# Altium schematic symbol library ic.SchLib: 105 symbols (part 1 of 2)
Pins are listed as number, name and electrical type; pins without a type are passive.

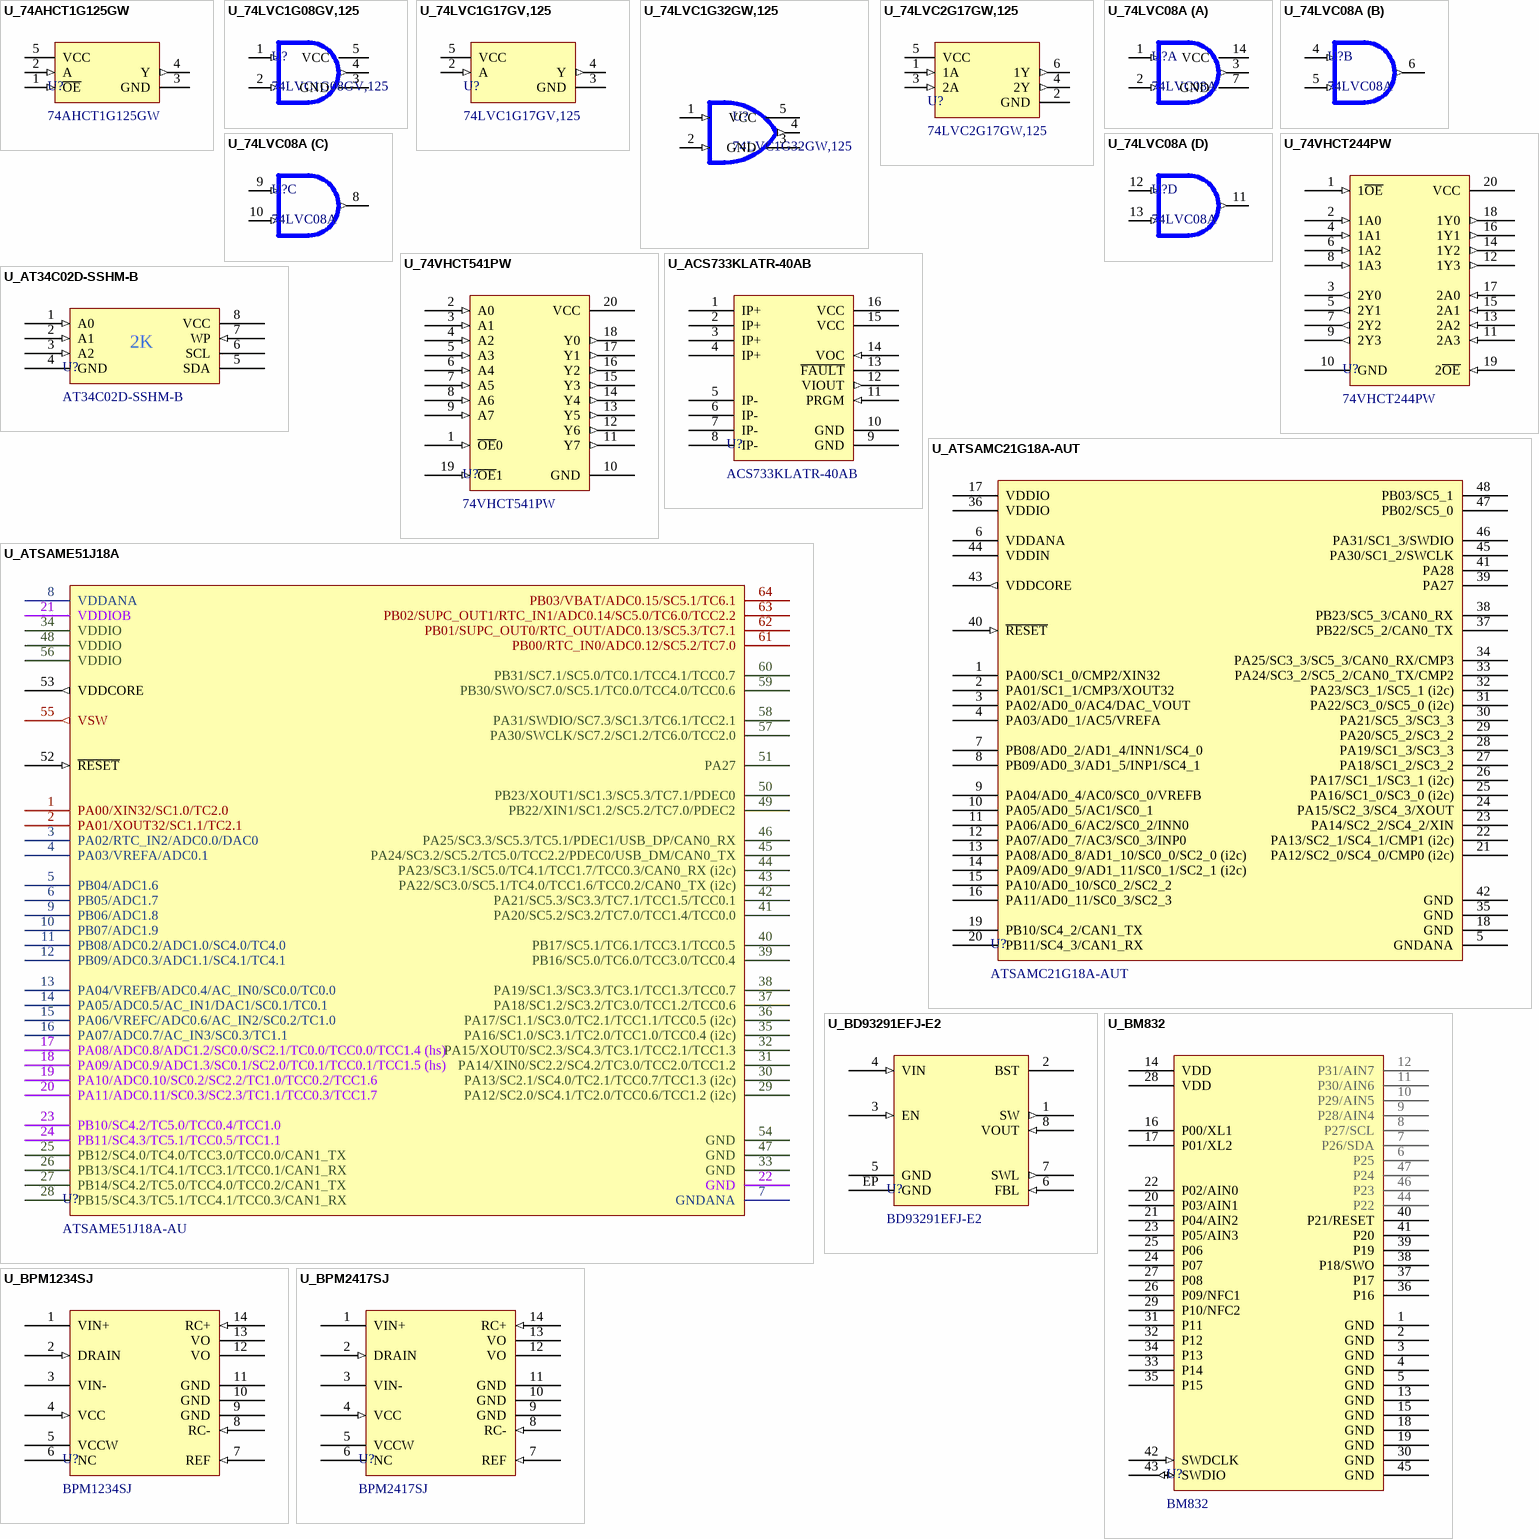
[diagram p0: symbols U_74AHCT1G125GW to U_BPM2417SJ]

## U_74AHCT1G125GW
designator U?, comment 74AHCT1G125GW
Buffer, Non-Inverting 1 Element 1 Bit per Element 3-State Output 5-TSSOP; Manufacturer: NXP Semiconductors; High Level Output Current: -8mA; Low Level Output Current: 8mA; Max Supply Voltage: 5.5V; Min Supply Voltage: 4.5V; Quiescent Current: 1uA; Propagation Delay: 11ns; Turn-On Delay Time: 9.5ns; Supplier 1: Digi-Key; Supplier 2: Mouser; Supplier Part Number 1: 1727-4055-1-ND; Supplier Part Number 2: 771-74AHCT1G125GW-G; Logic Function: Buffer; Manufacturer Part Number: 74AHCT1G125GW; Max Operating Temperature: 125°C; Min Operating Temperature: -40°C; Polarity: Non-Inverting
footprint SC70-5 (5 pin SC70, 0.65mm pitch)
pins: 1 ~{OE} (in), 2 A (in), 3 GND (power), 4 Y (out), 5 VCC (power)

## U_74LVC1G08GV,125
designator U?, comment 74LVC1G08GV,125
AND Gate IC 1 Channel 5-TSOP; Manufacturer: Nexperia USA Inc.; Low Level Output Current: 32mA; Quiescent Current: 4uA; Max Supply Voltage: 5.5V; Min Supply Voltage: 1.65V; Propagation Delay: 4ns; Max Operating Temperature: 125°C; High Level Output Current: 32mA; Logic Function: AND; Manufacturer Part Number: 74LVC1G08GV,125; Min Operating Temperature: -40°C; Supplier 1: Digi-Key; Supplier Part Number 1: 1727-4115-1-ND
footprint SOT23-5 (SOT23-5 (SOT-25) 0.95mm pitch, 5 pins)
pins: 1 B (in), 2 A (in), 3 GND (power), 4 Y (out), 5 VCC (power)

## U_74LVC1G17GV,125
designator U?, comment 74LVC1G17GV,125
Buffer, Non-Inverting 1 Element 1 Bit per Element Push-Pull Output 5-TSOP; Manufacturer: NXP Semiconductors; Low Level Output Current: 32mA; Propagation Delay: 2.2ns; Max Supply Voltage: 5.5V; Min Supply Voltage: 1.65V; Quiescent Current: 200uA; High Level Output Current: -32mA; Supplier 1: Digi-Key; Supplier Part Number 1: 1727-6070-1-ND; Max Operating Temperature: 125°C; Manufacturer Part Number: 74LVC1G17GV,125; Min Operating Temperature: -40°C
footprint SOT23-5 (SOT23-5 (SOT-25) 0.95mm pitch, 5 pins)
pins: 2 A (in), 3 GND (power), 4 Y (out), 5 VCC (power)

## U_74LVC1G32GW,125
designator U?, comment 74LVC1G32GW,125
OR Gate IC 1 Channel 5-TSSOP; Manufacturer: Nexperia; Supplier 1: Digi-Key; Supplier 2: Mouser; Supplier Part Number 1: 1727-3102-1-ND; Supplier Part Number 2: 771-74LVC1G32GW-G; Manufacturer Part Number: 74LVC1G32GW,125; Logic Function: OR
footprint SC70-5 (5 pin SC70, 0.65mm pitch)
pins: 1 B (in), 2 A (in), 3 GND (power), 4 Y (out), 5 VCC (power)

## U_74LVC2G17GW,125
designator U?, comment 74LVC2G17GW,125
Buffer, Non-Inverting 2 Element 1 Bit per Element Push-Pull Output 6-TSSOP; Manufacturer: Nexperia; Supplier 1: Digi-Key; Supplier 2: Mouser; Supplier Part Number 1: 1727-4218-1-ND; Supplier Part Number 2: 771-LVC2G17GW125; Manufacturer Part Number: 74LVC2G17GW,125
footprint SOT363 (6 pin SOT363, 0.65mm pitch)
pins: 1 1A (in), 2 GND (power), 3 2A (in), 4 2Y (out), 5 VCC (power), 6 1Y (out)

## U_74LVC08A
designator U?, comment 74LVC08A
AND Gate IC 4 Channel 14-SO; Manufacturer Part Number: 74LVC08AS14-13; Manufacturer: Diodes; Low Level Output Current: 24mA; Quiescent Current: 40uA; Max Supply Voltage: 5.5V; Min Supply Voltage: 1.65V; Propagation Delay: 3.9ns; Supplier 1: Digi-Key; Supplier Part Number 1: 74LVC08AS14-13DICT-ND; Max Operating Temperature: 125°C; High Level Output Current: 24mA; Logic Function: AND; Min Operating Temperature: -40°C
footprint SOIC-14 (Footprint not found)
part A pins: 1 1A (in), 2 1B (in), 3 1Y (out), 7 GND (power), 14 VCC (power)
part B pins: 4 2A (in), 5 2B (in), 6 2Y (out)
part C pins: 8 3Y (out), 9 3A (in), 10 3B (in)
part D pins: 11 4Y (out), 12 4A (in), 13 4B (in)

## U_74VHCT244PW
designator U?, comment 74VHCT244PW
Buffer, Non-Inverting 2 Element 4 Bit per Element 3-State Output 20-TSSOP; Manufacturer Part Number: 74VHCT244PW,118; Manufacturer: NXP Semiconductors; High Level Output Current: -8mA; Low Level Output Current: 8mA; Max Supply Voltage: 5.5V; Min Supply Voltage: 4.5V; Propagation Delay: 8.4ns; Max Operating Temperature: 125°C; Min Operating Temperature: -40°C; Polarity: Non-Inverting
footprint TSSOP-20 (0.65mm pitch TSSOP)
pins: 1 1~{OE} (in), 2 1A0 (in), 3 2Y0 (out), 4 1A1 (in), 5 2Y1 (out), 6 1A2 (in), 7 2Y2 (out), 8 1A3 (in), 9 2Y3 (out), 10 GND (power), 11 2A3 (in), 12 1Y3 (out), 13 2A2 (in), 14 1Y2 (out), 15 2A1 (in), 16 1Y1 (out), 17 2A0 (in), 18 1Y0 (out), 19 2~{OE} (in), 20 VCC (power)

## U_74VHCT541PW
designator U?, comment 74VHCT541PW
Buffer, Non-Inverting 1 Element 8 Bit per Element 3-State Output 20-TSSOP; Manufacturer Part Number: 74VHCT541PW,118; Manufacturer: NXP Semiconductors; High Level Output Current: -8mA; Low Level Output Current: 8mA; Max Supply Voltage: 5.5V; Min Supply Voltage: 4.5V; Propagation Delay: 8.4ns; Max Operating Temperature: 125°C; Min Operating Temperature: -40°C; Polarity: Non-Inverting
footprint TSSOP-20 (0.65mm pitch TSSOP)
pins: 1 ~{OE}0 (in), 2 A0 (in), 3 A1 (in), 4 A2 (in), 5 A3 (in), 6 A4 (in), 7 A5 (in), 8 A6 (in), 9 A7 (in), 10 GND (power), 11 Y7 (out), 12 Y6 (out), 13 Y5 (out), 14 Y4 (out), 15 Y3 (out), 16 Y2 (out), 17 Y1 (out), 18 Y0 (out), 19 ~{OE}1 (in), 20 VCC (power)

## U_ACS733KLATR-40AB
designator U?, comment ACS733KLATR-40AB
Current Sensor 40A 1 Channel Hall Effect, Differential Bidirectional 16-SOIC (0.295", 7.50mm Width); Manufacturer Part Number: ACS733KLATR-40AB-T; Manufacturer: Allegro MicroSystems; Sensitivity: 33mV/A; Frequency: 1MHz; Linearity: ±0.5%; Accuracy: ±1.7%; Voltage - Supply: 3.14 V ~ 3.46 V; Response Time: 200ns; Current - Supply (Max): 35mA; Supplier 1: Digi-Key; Supplier Part Number 1: 620-1988-6-ND; Current - Sensing: ±40A; Polarization: Bidirectional
footprint SOIC-16_W300 (Wide SOIC)
pins: 1 IP+, 2 IP+, 3 IP+, 4 IP+, 5 IP-, 6 IP-, 7 IP-, 8 IP-, 9 GND (power), 10 GND (power), 11 PRGM (in), 12 VIOUT (out), 13 ~{FAULT} (oc), 14 VOC (in), 15 VCC (power), 16 VCC (power)

## U_AT34C02D-SSHM-B
designator U?, comment AT34C02D-SSHM-B
EEPROM Memory IC 2Kb (256 x 8) I²C 1MHz 8-SOIC; Manufacturer: Microchip; Manufacturer Part Number: AT34C02D-SSHM-B; Supplier 1: Digi-Key; Supplier Part Number 1: 1611-AT34C02D-SSHM-B-ND
footprint SOIC-8 (SOIC, 8-Leads, Body 4.9x3.9mm (max), Pitch 1.27mm, IPC Medium Density)
pins: 1 A0 (in), 2 A1 (in), 3 A2 (in), 4 GND (power), 5 SDA (oc), 6 SCL (oc), 7 WP (in), 8 VCC (power)
text: 2K

## U_ATSAMC21G18A-AUT
designator U?, comment ATSAMC21G18A-AUT
ARM® Cortex®-M0+ SAM C21 Microcontroller IC 32-Bit 48MHz 256KB (256K x 8) FLASH 48-TQFP (7x7); Supplier 1: Digi-Key; Supplier Part Number 1: ATSAMC21G18A-AUTCT-ND
footprint TQFP-48
pins: 1 PA00/SC1_0/CMP2/XIN32, 2 PA01/SC1_1/CMP3/XOUT32, 3 PA02/AD0_0/AC4/DAC_VOUT, 4 PA03/AD0_1/AC5/VREFA, 5 GNDANA (power), 6 VDDANA (power), 7 PB08/AD0_2/AD1_4/INN1/SC4_0, 8 PB09/AD0_3/AD1_5/INP1/SC4_1, 9 PA04/AD0_4/AC0/SC0_0/VREFB, 10 PA05/AD0_5/AC1/SC0_1, 11 PA06/AD0_6/AC2/SC0_2/INN0, 12 PA07/AD0_7/AC3/SC0_3/INP0, 13 PA08/AD0_8/AD1_10/SC0_0/SC2_0 (i2c), 14 PA09/AD0_9/AD1_11/SC0_1/SC2_1 (i2c), 15 PA10/AD0_10/SC0_2/SC2_2, 16 PA11/AD0_11/SC0_3/SC2_3, 17 VDDIO (power), 18 GND (power), 19 PB10/SC4_2/CAN1_TX, 20 PB11/SC4_3/CAN1_RX, 21 PA12/SC2_0/SC4_0/CMP0 (i2c), 22 PA13/SC2_1/SC4_1/CMP1 (i2c), 23 PA14/SC2_2/SC4_2/XIN, 24 PA15/SC2_3/SC4_3/XOUT, 25 PA16/SC1_0/SC3_0 (i2c), 26 PA17/SC1_1/SC3_1 (i2c), 27 PA18/SC1_2/SC3_2, 28 PA19/SC1_3/SC3_3, 29 PA20/SC5_2/SC3_2, 30 PA21/SC5_3/SC3_3, 31 PA22/SC3_0/SC5_0 (i2c), 32 PA23/SC3_1/SC5_1 (i2c), 33 PA24/SC3_2/SC5_2/CAN0_TX/CMP2, 34 PA25/SC3_3/SC5_3/CAN0_RX/CMP3, 35 GND (power), 36 VDDIO (power), 37 PB22/SC5_2/CAN0_TX, 38 PB23/SC5_3/CAN0_RX, 39 PA27, 40 ~{RESET} (in), 41 PA28, 42 GND (power), 43 VDDCORE (out), 44 VDDIN (power), 45 PA30/SC1_2/SWCLK, 46 PA31/SC1_3/SWDIO, 47 PB02/SC5_0, 48 PB03/SC5_1

## U_ATSAME51J18A
designator U?, comment ATSAME51J18A-AU
ARM® Cortex®-M4F SAM E51 Microcontroller IC 32-Bit 120MHz 256KB (256K x 8) FLASH 64-TQFP (10x10); Supplier 1: Digi-Key; Supplier Part Number 1: ATSAME51J18A-AU-ND
footprint TQFP-64 (64 pin TQFP, 0.5mm pitch, 10x10mm)
pins: 1 PA00/XIN32/SC1.0/TC2.0, 2 PA01/XOUT32/SC1.1/TC2.1, 3 PA02/RTC_IN2/ADC0.0/DAC0, 4 PA03/VREFA/ADC0.1, 5 PB04/ADC1.6, 6 PB05/ADC1.7, 7 GNDANA (power), 8 VDDANA (power), 9 PB06/ADC1.8, 10 PB07/ADC1.9, 11 PB08/ADC0.2/ADC1.0/SC4.0/TC4.0, 12 PB09/ADC0.3/ADC1.1/SC4.1/TC4.1, 13 PA04/VREFB/ADC0.4/AC_IN0/SC0.0/TC0.0, 14 PA05/ADC0.5/AC_IN1/DAC1/SC0.1/TC0.1, 15 PA06/VREFC/ADC0.6/AC_IN2/SC0.2/TC1.0, 16 PA07/ADC0.7/AC_IN3/SC0.3/TC1.1, 17 PA08/ADC0.8/ADC1.2/SC0.0/SC2.1/TC0.0/TCC0.0/TCC1.4 (hs), 18 PA09/ADC0.9/ADC1.3/SC0.1/SC2.0/TC0.1/TCC0.1/TCC1.5 (hs), 19 PA10/ADC0.10/SC0.2/SC2.2/TC1.0/TCC0.2/TCC1.6, 20 PA11/ADC0.11/SC0.3/SC2.3/TC1.1/TCC0.3/TCC1.7, 21 VDDIOB (power), 22 GND (power), 23 PB10/SC4.2/TC5.0/TCC0.4/TCC1.0, 24 PB11/SC4.3/TC5.1/TCC0.5/TCC1.1, 25 PB12/SC4.0/TC4.0/TCC3.0/TCC0.0/CAN1_TX, 26 PB13/SC4.1/TC4.1/TCC3.1/TCC0.1/CAN1_RX, 27 PB14/SC4.2/TC5.0/TCC4.0/TCC0.2/CAN1_TX, 28 PB15/SC4.3/TC5.1/TCC4.1/TCC0.3/CAN1_RX, 29 PA12/SC2.0/SC4.1/TC2.0/TCC0.6/TCC1.2 (i2c), 30 PA13/SC2.1/SC4.0/TC2.1/TCC0.7/TCC1.3 (i2c), 31 PA14/XIN0/SC2.2/SC4.2/TC3.0/TCC2.0/TCC1.2, 32 PA15/XOUT0/SC2.3/SC4.3/TC3.1/TCC2.1/TCC1.3, 33 GND (power), 34 VDDIO (power), 35 PA16/SC1.0/SC3.1/TC2.0/TCC1.0/TCC0.4 (i2c), 36 PA17/SC1.1/SC3.0/TC2.1/TCC1.1/TCC0.5 (i2c), 37 PA18/SC1.2/SC3.2/TC3.0/TCC1.2/TCC0.6, 38 PA19/SC1.3/SC3.3/TC3.1/TCC1.3/TCC0.7, 39 PB16/SC5.0/TC6.0/TCC3.0/TCC0.4, 40 PB17/SC5.1/TC6.1/TCC3.1/TCC0.5, 41 PA20/SC5.2/SC3.2/TC7.0/TCC1.4/TCC0.0, 42 PA21/SC5.3/SC3.3/TC7.1/TCC1.5/TCC0.1, 43 PA22/SC3.0/SC5.1/TC4.0/TCC1.6/TCC0.2/CAN0_TX (i2c), 44 PA23/SC3.1/SC5.0/TC4.1/TCC1.7/TCC0.3/CAN0_RX (i2c), 45 PA24/SC3.2/SC5.2/TC5.0/TCC2.2/PDEC0/USB_DM/CAN0_TX, 46 PA25/SC3.3/SC5.3/TC5.1/PDEC1/USB_DP/CAN0_RX, 47 GND (power), 48 VDDIO (power), 49 PB22/XIN1/SC1.2/SC5.2/TC7.0/PDEC2, 50 PB23/XOUT1/SC1.3/SC5.3/TC7.1/PDEC0, 51 PA27, 52 ~{RESET} (in), 53 VDDCORE (out), 54 GND (power), 55 VSW (out), 56 VDDIO (power), 57 PA30/SWCLK/SC7.2/SC1.2/TC6.0/TCC2.0, 58 PA31/SWDIO/SC7.3/SC1.3/TC6.1/TCC2.1, 59 PB30/SWO/SC7.0/SC5.1/TC0.0/TCC4.0/TCC0.6, 60 PB31/SC7.1/SC5.0/TC0.1/TCC4.1/TCC0.7, 61 PB00/RTC_IN0/ADC0.12/SC5.2/TC7.0, 62 PB01/SUPC_OUT0/RTC_OUT/ADC0.13/SC5.3/TC7.1, 63 PB02/SUPC_OUT1/RTC_IN1/ADC0.14/SC5.0/TC6.0/TCC2.2, 64 PB03/VBAT/ADC0.15/SC5.1/TC6.1

## U_BD93291EFJ-E2
designator U?, comment BD93291EFJ-E2
Buck Switching Regulator IC Positive Adjustable (Fixed) 0.8V (5V) 2 Output 1.7A, 500mA 8-SOIC (0.154", 3.90mm Width) Exposed Pad; Manufacturer: Rohm Semiconductor; Quiescent Current: 5uA; Voltage - Input (Min): 8V; Voltage - Input (Max): 26V; Voltage - Output (Max): 4V; Frequency - Switching: 300kHz ~ 600kHz, 1.5MHz ~ 2.5MHz; Max Operating Temperature: 85°C; Manufacturer Part Number: BD93291EFJ-E2; Min Operating Temperature: -40°C; Voltage - Output (Min/Fixed): 0.8V (5V); Current - Output: 1.7A, 500mA; Supplier 1: Digi-Key; Supplier Part Number 1: BD93291EFJ-E2CT-ND
footprint SOIC-8-EP (SOIC, 8-Leads, Body 4.9x3.9mm (max), Pitch 1.27mm, IPC Medium Density, Exposed Pad)
pins: 1 SW (out), 2 BST, 3 EN (in), 4 VIN (in), 5 GND (power), 6 FBL (in), 7 SWL (out), 8 VOUT (in) "Is an input, even though it is called "VOUT"", EP GND (power)

## U_BM832
designator U?, comment BM832
Bluetooth Bluetooth v5.0 Transceiver Module 2.4GHz PCB Trace Surface Mount; Manufacturer: Fanstel; Manufacturer Part Number: BM832
footprint U_BM832 (BM832 or BM832A Bluetooth Module)
pins: 1 GND (power), 2 GND (power), 3 GND (power), 4 GND (power), 5 GND (power), 6 P25, 7 P26/SDA, 8 P27/SCL, 9 P28/AIN4, 10 P29/AIN5, 11 P30/AIN6, 12 P31/AIN7, 13 GND (power), 14 VDD (power), 15 GND (power), 16 P00/XL1, 17 P01/XL2, 18 GND (power), 19 GND (power), 20 P03/AIN1, 21 P04/AIN2, 22 P02/AIN0, 23 P05/AIN3, 24 P07, 25 P06, 26 P09/NFC1, 27 P08, 28 VDD (power), 29 P10/NFC2, 30 GND (power), 31 P11, 32 P12, 33 P14, 34 P13, 35 P15, 36 P16, 37 P17, 38 P18/SWO, 39 P19, 40 P21/RESET, 41 P20, 42 SWDCLK (in), 43 SWDIO (io), 44 P22, 45 GND (power), 46 P23, 47 P24

## U_BPM1234SJ
designator U?, comment BPM1234SJ
Isolated Module DC DC Converter 1 Output 12V 3.4A 140V - 420V Input; Supplier 1: Digi-Key; Supplier Part Number 1: MT7391-ND
footprint DIP-14_DCDC_MODULE_BPM (Tamura DCDC Module BPM Series)
pins: 1 VIN+ (power) "DC voltage input terminal (+)", 2 DRAIN (in) "Terminal for noise adjustment", 3 VIN- (power) "DC voltage input terminal (-)", 4 VCC (in) "Terminal for start-up time adjustment", 5 VCCW "Auxiliary winding terminal", 6 NC "Unused terminal", 7 REF (in) "Output voltage adjustment terminal", 8 RC- (in) "Output voltage detection terminal (-)", 9 GND (power) "Output terminal (-)", 10 GND (power) "Output terminal (-)", 11 GND (power) "Output terminal (-)", 12 VO (power) "Output terminal (+)", 13 VO (power) "Output terminal (+)", 14 RC+ (in) "Output voltage detection terminal (+)"

## U_BPM2417SJ
designator U?, comment BPM2417SJ
Isolated Module DC DC Converter 1 Output 24V 1.7A 100V - 420V Input; Supplier 1: Digi-Key; Supplier Part Number 1: MT7393-ND
footprint DIP-14_DCDC_MODULE_BPM (Tamura DCDC Module BPM Series)
pins: 1 VIN+ (power) "DC voltage input terminal (+)", 2 DRAIN (in) "Terminal for noise adjustment", 3 VIN- (power) "DC voltage input terminal (-)", 4 VCC (in) "Terminal for start-up time adjustment", 5 VCCW "Auxiliary winding terminal", 6 NC "Unused terminal", 7 REF (in) "Output voltage adjustment terminal", 8 RC- (in) "Output voltage detection terminal (-)", 9 GND (power) "Output terminal (-)", 10 GND (power) "Output terminal (-)", 11 GND (power) "Output terminal (-)", 12 VO (power) "Output terminal (+)", 13 VO (power) "Output terminal (+)", 14 RC+ (in) "Output voltage detection terminal (+)"

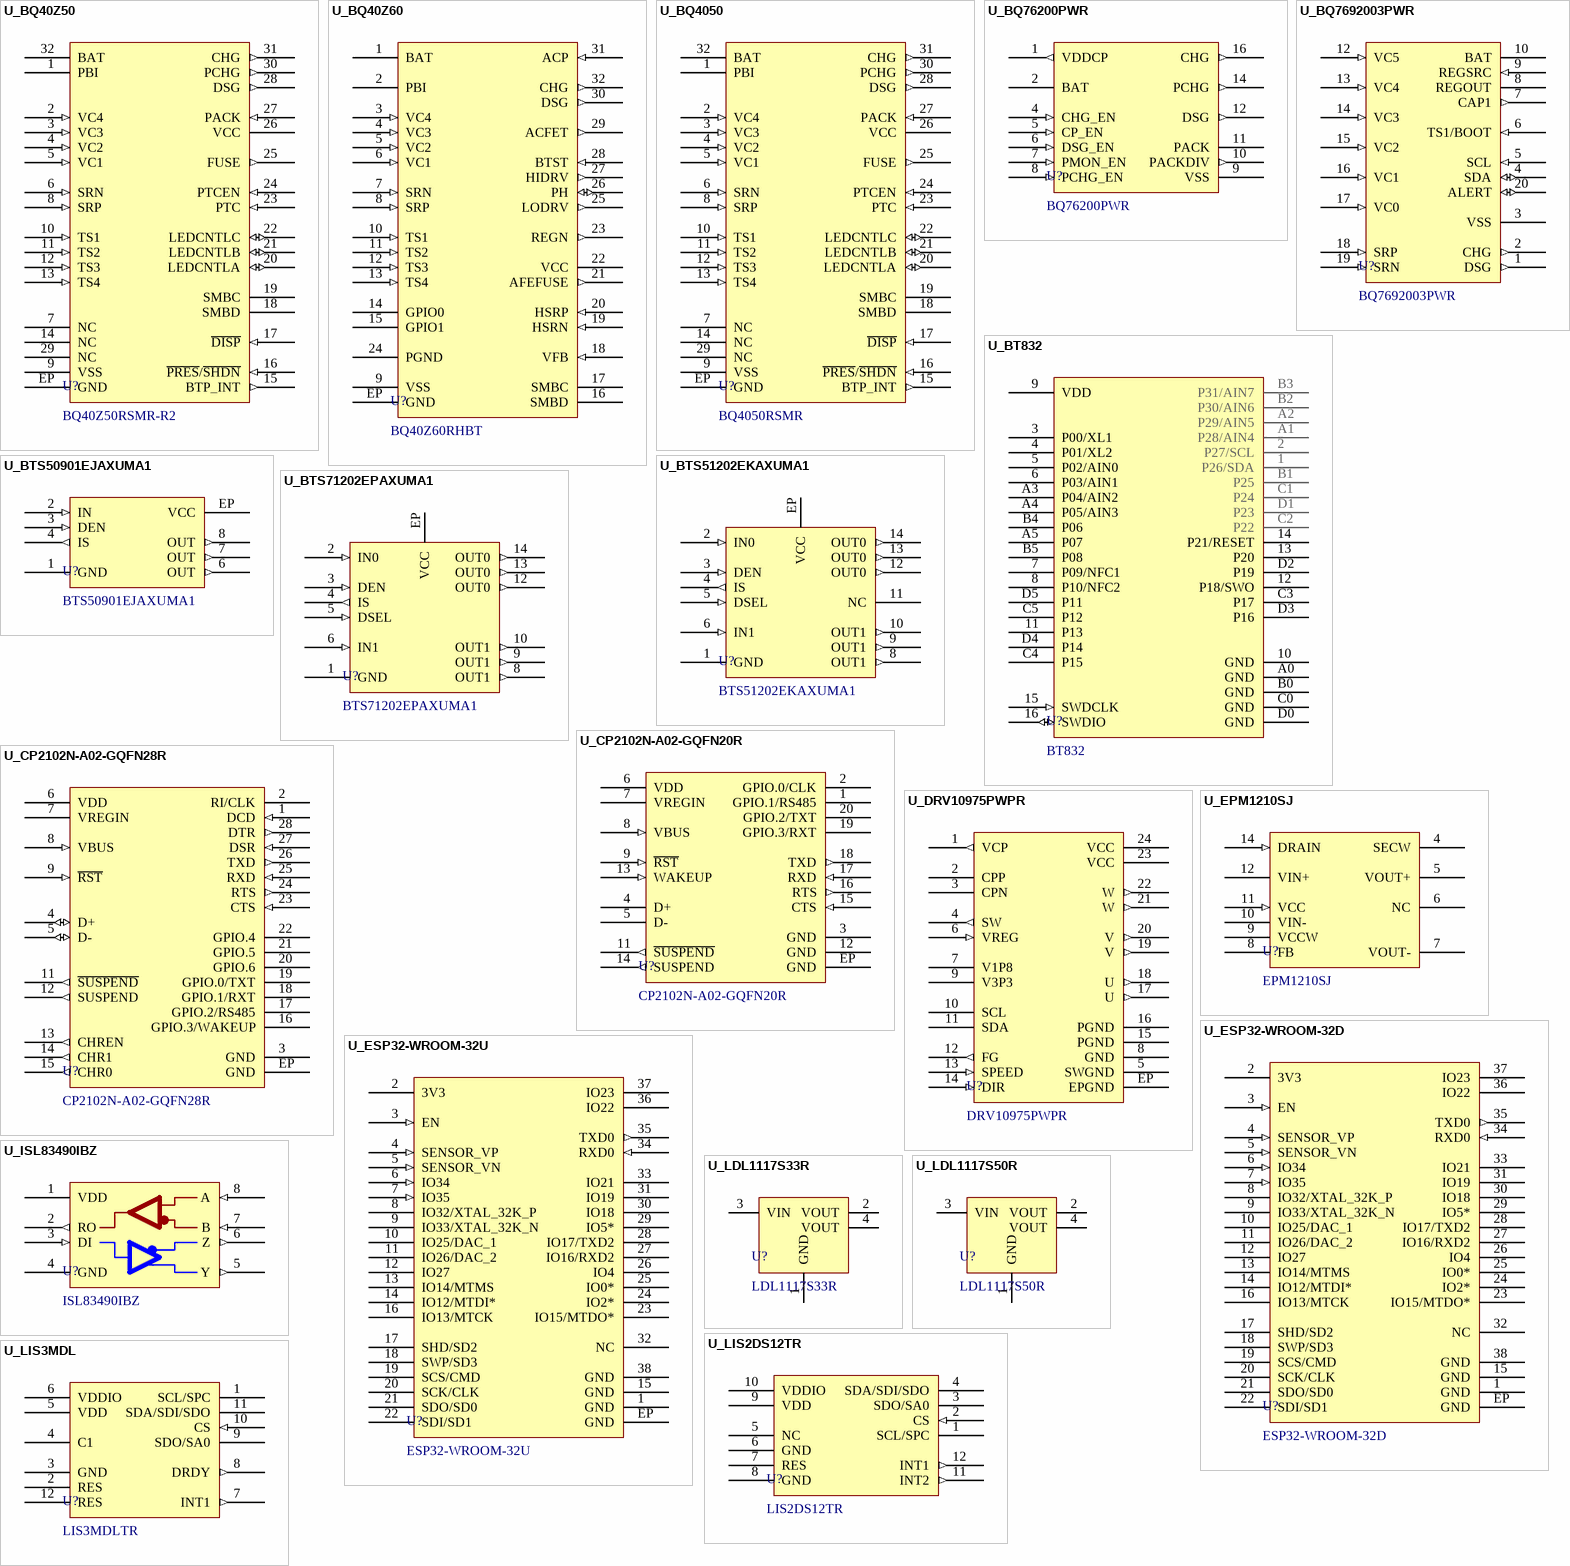
[diagram p1: symbols U_BQ40Z50 to U_LIS3MDL]

## U_BQ40Z50
designator U?, comment BQ40Z50RSMR-R2
Battery Multi-Function Controller IC Lithium-Ion/Polymer 32-VQFN (4x4); Supplier 1: Digi-Key; Supplier 2: Mouser; Supplier Part Number 1: 296-49567-1-ND; Supplier Part Number 2: 595-BQ40Z50RSMR-R2
footprint VQFN-32-EP_4x4mm (4x4mm VQFN, 32 pins, 0.4mm pitch)
pins: 1 PBI (power), 2 VC4 (in), 3 VC3 (in), 4 VC2 (in), 5 VC1 (in), 6 SRN (in), 7 NC, 8 SRP (in), 9 VSS, 10 TS1 (in), 11 TS2 (in), 12 TS3 (in), 13 TS4 (in), 14 NC, 15 BTP_INT (out), 16 ~{PRES}/~{SHDN} (in), 17 ~{DISP} (in), 18 SMBD, 19 SMBC, 20 LEDCNTLA (io), 21 LEDCNTLB (io), 22 LEDCNTLC (io), 23 PTC (in), 24 PTCEN (in), 25 FUSE (out), 26 VCC (power), 27 PACK (in), 28 DSG (out), 29 NC, 30 PCHG (out), 31 CHG (out), 32 BAT (power), EP GND (power)

## U_BQ40Z60
designator U?, comment BQ40Z60RHBT
Charger IC Lithium-Ion/Polymer 32-VQFN (5x5); Supplier 1: Digi-Key; Supplier 2: Mouser; Supplier Part Number 2: 595-BQ40Z60RHBT; Supplier Part Number 1: 296-38618-1-ND
footprint VQFN-32-EP (5x5mm VQFN, 32 pins, 0.5mm pitch)
pins: 1 BAT, 2 PBI (power), 3 VC4 (in), 4 VC3 (in), 5 VC2 (in), 6 VC1 (in), 7 SRN (in), 8 SRP (in), 9 VSS (power), 10 TS1 (in), 11 TS2 (in), 12 TS3 (in), 13 TS4 (in), 14 GPIO0 (oc), 15 GPIO1 (oc), 16 SMBD (oc), 17 SMBC (oc), 18 VFB (in), 19 HSRN (in), 20 HSRP (in), 21 AFEFUSE (out), 22 VCC (power), 23 REGN (out), 24 PGND (power), 25 LODRV (out), 26 PH (io), 27 HIDRV (out), 28 BTST (in), 29 ACFET (out), 30 DSG (out), 31 ACP (in), 32 CHG (out), EP GND (power)

## U_BQ4050
designator U?, comment BQ4050RSMR
Battery Multi-Function Controller IC Lithium-Ion/Polymer 32-VQFN (4x4); Supplier 1: Digi-Key; Supplier 2: Mouser; Supplier Part Number 1: 296-48498-1-ND; Supplier Part Number 2: 595-BQ4050RSMR
footprint VQFN-32-EP_4x4mm (4x4mm VQFN, 32 pins, 0.4mm pitch)
pins: 1 PBI (power), 2 VC4 (in), 3 VC3 (in), 4 VC2 (in), 5 VC1 (in), 6 SRN (in), 7 NC, 8 SRP (in), 9 VSS, 10 TS1 (in), 11 TS2 (in), 12 TS3 (in), 13 TS4 (in), 14 NC, 15 BTP_INT (out), 16 ~{PRES}/~{SHDN} (in), 17 ~{DISP} (in), 18 SMBD, 19 SMBC, 20 LEDCNTLA (io), 21 LEDCNTLB (io), 22 LEDCNTLC (io), 23 PTC (in), 24 PTCEN (in), 25 FUSE (out), 26 VCC (power), 27 PACK (in), 28 DSG (out), 29 NC, 30 PCHG (out), 31 CHG (out), 32 BAT (power), EP GND (power)

## U_BQ76200PWR
designator U?, comment BQ76200PWR
Battery Battery Protection IC Lead Acid 16-TSSOP; Supplier 1: Digi-Key; Supplier 2: Mouser; Supplier Part Number 1: 296-43273-1-ND; Supplier Part Number 2: 595-BQ76200PWR
footprint TSSOP-16 (0.65mm pitch TSSOP)
pins: 1 VDDCP (out), 2 BAT (power), 4 CHG_EN (in), 5 CP_EN (in), 6 DSG_EN (in), 7 PMON_EN (in), 8 PCHG_EN (in), 9 VSS (power), 10 PACKDIV (out), 11 PACK (power), 12 DSG (out), 14 PCHG (out), 16 CHG (out)

## U_BQ7692003PWR
designator U?, comment BQ7692003PWR
Battery Battery Monitor IC Multi-Chemistry 20-TSSOP; Supplier 1: Digi-Key; Supplier Part Number 1: 296-39959-6-ND
footprint TSSOP-20 (0.65mm pitch TSSOP)
pins: 1 DSG (out), 2 CHG (out), 3 VSS (power), 4 SDA (io), 5 SCL (in), 6 TS1/BOOT (in), 7 CAP1 (out), 8 REGOUT (power), 9 REGSRC (in), 10 BAT (power), 12 VC5 (in), 13 VC4 (in), 14 VC3 (in), 15 VC2 (in), 16 VC1 (in), 17 VC0 (in), 18 SRP (in), 19 SRN (in), 20 ALERT (io)

## U_BT832
designator U?, comment BT832
Bluetooth Bluetooth v5.0 Transceiver Module 2.4GHz Integrated, Trace Surface Mount; Manufacturer: Fanstel; Supplier 1: Digi-Key; Supplier 2: Mouser; Supplier Part Number 1: 1914-1013-1-ND; Supplier Part Number 2: 308-BT832; Manufacturer Part Number: BT832
footprint U_BT832 (BT832 or BT832A Bluetooth Module)
pins: 1 P26/SDA, 2 P27/SCL, 3 P00/XL1, 4 P01/XL2, 5 P02/AIN0, 6 P03/AIN1, 7 P09/NFC1, 8 P10/NFC2, 9 VDD (power), 10 GND (power), 11 P13, 12 P18/SWO, 13 P20, 14 P21/RESET, 15 SWDCLK (in), 16 SWDIO (io), A0 GND (power), A1 P28/AIN4, A2 P29/AIN5, A3 P04/AIN2, A4 P05/AIN3, A5 P07, B0 GND (power), B1 P25, B2 P30/AIN6, B3 P31/AIN7, B4 P06, B5 P08, C0 GND (power), C1 P24, C2 P22, C3 P17, C4 P15, C5 P12, D0 GND (power), D1 P23, D2 P19, D3 P16, D4 P14, D5 P11

## U_BTS50901EJAXUMA1
designator U?, comment BTS50901EJAXUMA1
IC PWR SW HI-SIDE 1CH 8DSO; Supplier 1: Digi-Key; Supplier Part Number 1: BTS50901EJAXUMA1DKR-ND
footprint SOIC-8-EP (SOIC, 8-Leads, Body 4.9x3.9mm (max), Pitch 1.27mm, IPC Medium Density, Exposed Pad)
pins: 1 GND (power), 2 IN (in), 3 DEN (in), 4 IS (out), 6 OUT (out), 7 OUT (out), 8 OUT (out), EP VCC (power)

## U_BTS51202EKAXUMA1
designator U?, comment BTS51202EKAXUMA1
Power Switch/Driver 1:1 N-Channel 2A PG-DSO-14-40-EP; Supplier 1: Digi-Key; Supplier Part Number 1: BTS51202EKAXUMA1CT-ND
footprint SOIC-14-EP (SOIC 14 pin with Exposed Pad (1.27mm pitch))
pins: 1 GND (power), 2 IN0 (in), 3 DEN (in), 4 IS (out), 5 DSEL (in), 6 IN1 (in), 8 OUT1 (out), 9 OUT1 (out), 10 OUT1 (out), 11 NC, 12 OUT0 (out), 13 OUT0 (out), 14 OUT0 (out), EP VCC (power)

## U_BTS71202EPAXUMA1
designator U?, comment BTS71202EPAXUMA1
Power Switch/Driver 1:1 N-Channel 2A PG-TSDSO-14-22; Supplier 1: Digikey; Supplier 2: Mouser; Supplier Part Number 1: BTS71202EPAXUMA1CT-ND; Supplier Part Number 2: 726-BTS71202EPAXUMA1
footprint TSSOP-14-EP (0.65mm pitch TSSOP, 14 pins, exposed pad)
pins: 1 GND (power), 2 IN0 (in), 3 DEN (in), 4 IS (out), 5 DSEL (in), 6 IN1 (in), 8 OUT1 (out), 9 OUT1 (out), 10 OUT1 (out), 12 OUT0 (out), 13 OUT0 (out), 14 OUT0 (out), EP VCC (power)

## U_CP2102N-A02-GQFN20R
designator U?, comment CP2102N-A02-GQFN20R
USB Bridge, USB to UART USB 2.0 UART Interface 20-QFN (3x3); Supplier 1: Digi-Key; Supplier 2: Mouser; Supplier Part Number 1: 336-5886-1-ND; Supplier Part Number 2: 634-CP2102NA02QFN20R
footprint QFN-20-EP_3x3mm (20 pin QFN package with exposed pad, 3x3mm)
pins: 1 GPIO.1/RS485, 2 GPIO.0/CLK, 3 GND (power), 4 D+, 5 D-, 6 VDD (power), 7 VREGIN (power), 8 VBUS (in), 9 ~{RST} (in), 11 ~{SUSPEND} (out), 12 GND (power), 13 WAKEUP (in), 14 SUSPEND (out), 15 CTS (in), 16 RTS (out), 17 RXD (in), 18 TXD (out), 19 GPIO.3/RXT, 20 GPIO.2/TXT, EP GND (power)

## U_CP2102N-A02-GQFN28R
designator U?, comment CP2102N-A02-GQFN28R
USB Bridge, USB to UART USB 2.0 UART Interface 28-QFN (5x5); Supplier 1: Digi-Key; Supplier 2: Mouser; Supplier Part Number 1: 336-5890-1-ND; Supplier Part Number 2: 634-CP2102NA02QFN28R
footprint QFN-28-EP_5x5mm (28 pin QFN, 0.5mm pitch)
pins: 1 DCD (in), 2 RI/CLK, 3 GND (power), 4 D+ (io), 5 D- (io), 6 VDD (power), 7 VREGIN (power), 8 VBUS (in), 9 ~{RST} (in), 11 ~{SUSPEND} (out), 12 SUSPEND (out), 13 CHREN (out), 14 CHR1 (out), 15 CHR0 (out), 16 GPIO.3/WAKEUP, 17 GPIO.2/RS485, 18 GPIO.1/RXT, 19 GPIO.0/TXT, 20 GPIO.6, 21 GPIO.5, 22 GPIO.4, 23 CTS (in), 24 RTS (out), 25 RXD (in), 26 TXD (out), 27 DSR (in), 28 DTR (out), EP GND (power)

## U_DRV10975PWPR
designator U?, comment DRV10975PWPR
Motor Driver Power MOSFET Analog, I²C, PWM 24-HTSSOP; Supplier 1: Digi-Key; Supplier 2: Mouser; Supplier Part Number 1: 296-40026-1-ND; Supplier Part Number 2: 595-DRV10975PWPR
footprint TSSOP-24-EP (24 Pin TSSOP, 0.65mm pitch)
pins: 1 VCP (out), 2 CPP (power), 3 CPN (power), 4 SW (out), 5 SWGND (power), 6 VREG (in), 7 V1P8 (power), 8 GND (power), 9 V3P3 (power), 10 SCL (oc), 11 SDA (oc), 12 FG (out), 13 SPEED (in), 14 DIR (in), 15 PGND (power), 16 PGND (power), 17 U (out), 18 U (out), 19 V (out), 20 V (out), 21 W (out), 22 W (out), 23 VCC (power), 24 VCC (power), EP EPGND (power)

## U_EPM1210SJ
designator U?, comment EPM1210SJ
Isolated Module DC DC Converter 1 Output 12V 1A 110V - 450V Input; Supplier 1: Digi-Key; Supplier Part Number 1: MT7382-ND
footprint DIP-14_DCDC_MODULE_EPM (Tamura DCDC Module EPM Series)
pins: 4 SECW "Non-contact terminal", 5 VOUT+ (power) "Output terminal (+)", 6 NC "Non-contact terminal", 7 VOUT- (power) "Output terminal (-)", 8 FB "Non-contact terminal", 9 VCCW "Non-contact terminal", 10 VIN- (power) "DC voltage input terminal (-)", 11 VCC (in) "Terminal for start-up time adjustment", 12 VIN+ (power) "DC voltage input terminal (+)", 14 DRAIN (in) "Terminal for noise adjustment"

## U_ESP32-WROOM-32D
designator U?, comment ESP32-WROOM-32D
Bluetooth, WiFi 802.11b/g/n, Bluetooth v4.2 + EDR, Class 1, 2 and 3 Transceiver Module 2.4GHz ~ 2.5GHz Integrated, Trace Surface Mount; Supplier 1: Digi-Key; Supplier 2: Mouser; Supplier Part Number 1: 1904-1023-1-ND; Supplier Part Number 2: 356-ESP32WROOM-32D
footprint U_ESP32-WROOM-32D (Wifi/Bluetooth Module, PCB Antenna)
pins: 1 GND (power), 2 3V3 (power), 3 EN (in) "Module-enable signal. Active high.", 4 SENSOR_VP (in) "GPIO36, ADC1_CH0, RTC_GPIO0", 5 SENSOR_VN (in) "GPIO39, ADC1_CH3, RTC_GPIO3", 6 IO34 (in) "GPIO34, ADC1_CH6, RTC_GPIO4", 7 IO35 (in) "GPIO35, ADC1_CH7, RTC_GPIO5", 8 IO32/XTAL_32K_P "GPIO32, XTAL_32K_P (32.768 kHz crystal oscillator input), ADC1_CH4, TOUCH9, RTC_GPIO9", 9 IO33/XTAL_32K_N "GPIO33, XTAL_32K_N (32.768 kHz crystal oscillator output), ADC1_CH5, TOUCH8, RTC_GPIO8", 10 IO25/DAC_1 "GPIO25, DAC_1, ADC2_CH8, RTC_GPIO6, EMAC_RXD0", 11 IO26/DAC_2 "GPIO26, DAC_2, ADC2_CH9, RTC_GPIO7, EMAC_RXD1", 12 IO27 "GPIO27, ADC2_CH7, TOUCH7, RTC_GPIO17, EMAC_RX_DV", 13 IO14/MTMS "GPIO14, ADC2_CH6, TOUCH6, RTC_GPIO16, MTMS, HSPICLK, HS2_CLK,  SD_CLK, EMAC_TXD2", 14 IO12/MTDI* "GPIO12, ADC2_CH5, TOUCH5, RTC_GPIO15, MTDI, HSPIQ, HS2_DATA2,  SD_DATA2, EMAC_TXD3", 15 GND (power), 16 IO13/MTCK "GPIO13, ADC2_CH4, TOUCH4, RTC_GPIO14, MTCK, HSPID, HS2_DATA3,  SD_DATA3, EMAC_RX_ER", 17 SHD/SD2 "GPIO9, SD_DATA2, SPIHD, HS1_DATA2, U1RXD", 18 SWP/SD3 "GPIO10, SD_DATA3, SPIWP, HS1_DATA3, U1TXD", 19 SCS/CMD "GPIO11, SD_CMD, SPICS0, HS1_CMD, U1RTS", 20 SCK/CLK "GPIO6, SD_CLK, SPICLK, HS1_CLK, U1CTS", 21 SDO/SD0 "GPIO7, SD_DATA0, SPIQ, HS1_DATA0, U2RTS", 22 SDI/SD1 "GPIO8, SD_DATA1, SPID, HS1_DATA1, U2CTS", 23 IO15/MTDO* "GPIO15, ADC2_CH3, TOUCH3, MTDO, HSPICS0, RTC_GPIO13, HS2_CMD,  SD_CMD, EMAC_RXD3", 24 IO2* "GPIO2, ADC2_CH2, TOUCH2, RTC_GPIO12, HSPIWP, HS2_DATA0,  SD_DATA0", 25 IO0* "GPIO0, ADC2_CH1, TOUCH1, RTC_GPIO11, CLK_OUT1, EMAC_TX_CLK", 26 IO4 "GPIO4, ADC2_CH0, TOUCH0, RTC_GPIO10, HSPIHD, HS2_DATA1,  SD_DATA1, EMAC_TX_ER", 27 IO16/RXD2 "GPIO16, HS1_DATA4, U2RXD, EMAC_CLK_OUT", 28 IO17/TXD2 "GPIO17, HS1_DATA5, U2TXD, EMAC_CLK_OUT_180", 29 IO5* "GPIO5, VSPICS0, HS1_DATA6, EMAC_RX_CLK", 30 IO18 "GPIO18, VSPICLK, HS1_DATA7", 31 IO19 "GPIO19, VSPIQ, U0CTS, EMAC_TXD0", 32 NC (hiz), 33 IO21 "GPIO21, VSPIHD, EMAC_TX_EN", 34 RXD0 (in) "GPIO3, U0RXD, CLK_OUT2", 35 TXD0 (out) "GPIO1, U0TXD, CLK_OUT3, EMAC_RXD2", 36 IO22 "GPIO22, VSPIWP, U0RTS, EMAC_TXD1", 37 IO23 "GPIO23, VSPID, HS1_STROBE", 38 GND (power), EP GND (power)

## U_ESP32-WROOM-32U
designator U?, comment ESP32-WROOM-32U
Bluetooth, WiFi 802.11b/g/n, Bluetooth v4.2 + EDR, Class 1, 2 and 3 Transceiver Module 2.4GHz ~ 2.5GHz Integrated, Chip + U.FL Surface Mount; Supplier 1: Digi-Key; Supplier 2: Mouser; Supplier Part Number 1: 1904-1026-1-ND; Supplier Part Number 2: 356-ESP32-WROOM-32U
footprint U_ESP32-WROOM-32U (Wifi/Bluetooth Module, U.FL Antenna)
pins: 1 GND (power), 2 3V3 (power), 3 EN (in) "Module-enable signal. Active high.", 4 SENSOR_VP (in) "GPIO36, ADC1_CH0, RTC_GPIO0", 5 SENSOR_VN (in) "GPIO39, ADC1_CH3, RTC_GPIO3", 6 IO34 (in) "GPIO34, ADC1_CH6, RTC_GPIO4", 7 IO35 (in) "GPIO35, ADC1_CH7, RTC_GPIO5", 8 IO32/XTAL_32K_P "GPIO32, XTAL_32K_P (32.768 kHz crystal oscillator input), ADC1_CH4, TOUCH9, RTC_GPIO9", 9 IO33/XTAL_32K_N "GPIO33, XTAL_32K_N (32.768 kHz crystal oscillator output), ADC1_CH5, TOUCH8, RTC_GPIO8", 10 IO25/DAC_1 "GPIO25, DAC_1, ADC2_CH8, RTC_GPIO6, EMAC_RXD0", 11 IO26/DAC_2 "GPIO26, DAC_2, ADC2_CH9, RTC_GPIO7, EMAC_RXD1", 12 IO27 "GPIO27, ADC2_CH7, TOUCH7, RTC_GPIO17, EMAC_RX_DV", 13 IO14/MTMS "GPIO14, ADC2_CH6, TOUCH6, RTC_GPIO16, MTMS, HSPICLK, HS2_CLK,  SD_CLK, EMAC_TXD2", 14 IO12/MTDI* "GPIO12, ADC2_CH5, TOUCH5, RTC_GPIO15, MTDI, HSPIQ, HS2_DATA2,  SD_DATA2, EMAC_TXD3", 15 GND (power), 16 IO13/MTCK "GPIO13, ADC2_CH4, TOUCH4, RTC_GPIO14, MTCK, HSPID, HS2_DATA3,  SD_DATA3, EMAC_RX_ER", 17 SHD/SD2 "GPIO9, SD_DATA2, SPIHD, HS1_DATA2, U1RXD", 18 SWP/SD3 "GPIO10, SD_DATA3, SPIWP, HS1_DATA3, U1TXD", 19 SCS/CMD "GPIO11, SD_CMD, SPICS0, HS1_CMD, U1RTS", 20 SCK/CLK "GPIO6, SD_CLK, SPICLK, HS1_CLK, U1CTS", 21 SDO/SD0 "GPIO7, SD_DATA0, SPIQ, HS1_DATA0, U2RTS", 22 SDI/SD1 "GPIO8, SD_DATA1, SPID, HS1_DATA1, U2CTS", 23 IO15/MTDO* "GPIO15, ADC2_CH3, TOUCH3, MTDO, HSPICS0, RTC_GPIO13, HS2_CMD,  SD_CMD, EMAC_RXD3", 24 IO2* "GPIO2, ADC2_CH2, TOUCH2, RTC_GPIO12, HSPIWP, HS2_DATA0,  SD_DATA0", 25 IO0* "GPIO0, ADC2_CH1, TOUCH1, RTC_GPIO11, CLK_OUT1, EMAC_TX_CLK", 26 IO4 "GPIO4, ADC2_CH0, TOUCH0, RTC_GPIO10, HSPIHD, HS2_DATA1,  SD_DATA1, EMAC_TX_ER", 27 IO16/RXD2 "GPIO16, HS1_DATA4, U2RXD, EMAC_CLK_OUT", 28 IO17/TXD2 "GPIO17, HS1_DATA5, U2TXD, EMAC_CLK_OUT_180", 29 IO5* "GPIO5, VSPICS0, HS1_DATA6, EMAC_RX_CLK", 30 IO18 "GPIO18, VSPICLK, HS1_DATA7", 31 IO19 "GPIO19, VSPIQ, U0CTS, EMAC_TXD0", 32 NC (hiz), 33 IO21 "GPIO21, VSPIHD, EMAC_TX_EN", 34 RXD0 (in) "GPIO3, U0RXD, CLK_OUT2", 35 TXD0 (out) "GPIO1, U0TXD, CLK_OUT3, EMAC_RXD2", 36 IO22 "GPIO22, VSPIWP, U0RTS, EMAC_TXD1", 37 IO23 "GPIO23, VSPID, HS1_STROBE", 38 GND (power), EP GND (power)

## U_ISL83490IBZ
designator U?, comment ISL83490IBZ
1/1 Transceiver Full RS422, RS485 8-SOIC; Manufacturer: Renesas Electronics; Receiver Hysteresis: 50mV; Min Operating Temperature: -40°C; Max Operating Temperature: 85°C; Manufacturer Part Number: ISL83490IBZ; Supplier 1: Digi-Key; Supplier Part Number 1: ISL83490IBZ-ND
footprint SOIC-8 (SOIC, 8-Leads, Body 4.9x3.9mm (max), Pitch 1.27mm, IPC Medium Density)
pins: 1 VDD (power), 2 RO (out), 3 DI (in), 4 GND (power), 5 Y (out), 6 Z (out), 7 B (in), 8 A (in)

## U_LDL1117S33R
designator U?, comment LDL1117S33R
Linear Voltage Regulator IC Positive Fixed 1 Output 3.3V 1.2A SOT-223; Manufacturer: STMicroelectronics; Voltage - Input (Max): 18V; PSRR: 87dB ~ 65dB (120Hz ~ 100kHz); Current - Quiescent (Iq): 500µA; Voltage Dropout (Max): 0.6V @ 1.2A; Supplier 1: Digi-Key; Supplier Part Number 1: 497-17239-6-ND; Manufacturer Part Number: LDL1117S33R; Current - Output: 1.2A; Operating Temperature: -40°C ~ 125°C (TJ); Voltage - Output (Min/Fixed): 3.3V
footprint SOT223
pins: 1 GND, 2 VOUT, 3 VIN, 4 VOUT

## U_LDL1117S50R
designator U?, comment LDL1117S50R
Linear Voltage Regulator IC Positive Fixed 1 Output 5V 1.2A SOT-223; Manufacturer: STMicroelectronics; Voltage - Input (Max): 18V; PSRR: 87dB ~ 65dB (120Hz ~ 100kHz); Current - Quiescent (Iq): 500µA; Voltage Dropout (Max): 0.6V @ 1.2A; Voltage - Output (Min/Fixed): 5.0V; Manufacturer Part Number: LDL1117S50R; Current - Output: 1.2A; Operating Temperature: -40°C ~ 125°C (TJ); Supplier 1: Digi-Key; Supplier Part Number 1: 497-17240-6-ND
footprint SOT223
pins: 1 GND, 2 VOUT, 3 VIN, 4 VOUT

## U_LIS2DS12TR
designator U?, comment LIS2DS12TR
Accelerometer X, Y, Z Axis ±2g, 4g, 8g, 16g 6.25Hz ~ 3.2kHz 12-LGA (2x2); Manufacturer: STMicroelectronics; Axis: X, Y, Z; Operating Supply Voltage: 1.98V; Output Type: SPI; Supplier 1: Digi-Key; Supplier 2: Mouser; Supplier Part Number 1: 497-16261-1-ND; Supplier Part Number 2: 511-LIS2DS12TR; Manufacturer Part Number: LIS2DS12TR; Bandwidth: 6.25Hz; Max Operating Temperature: 85°C; Min Operating Temperature: -40°C
footprint LGA-12_2x2mm (12 pin LGA package, 0.5mm pitch, 2x2mm)
pins: 1 SCL/SPC, 2 CS (in), 3 SDO/SA0, 4 SDA/SDI/SDO, 5 NC, 6 GND (power), 7 RES (power), 8 GND (power), 9 VDD (power), 10 VDDIO (power), 11 INT2 (out), 12 INT1 (out)

## U_LIS3MDL
designator U?, comment LIS3MDLTR
Magnetoresistive Sensor X, Y, Z Axis 12-LGA (2x2); Supplier 1: Digi-Key; Supplier 2: Mouser; Supplier Part Number 1: 497-13892-1-ND; Supplier Part Number 2: 511-LIS3MDLTR
footprint LGA-12_2x2mm (12 pin LGA package, 0.5mm pitch, 2x2mm)
pins: 1 SCL/SPC, 2 RES (power), 3 GND (power), 4 C1, 5 VDD (power), 6 VDDIO (power), 7 INT1 (out), 8 DRDY (out), 9 SDO/SA0, 10 CS (in), 11 SDA/SDI/SDO, 12 RES (power)

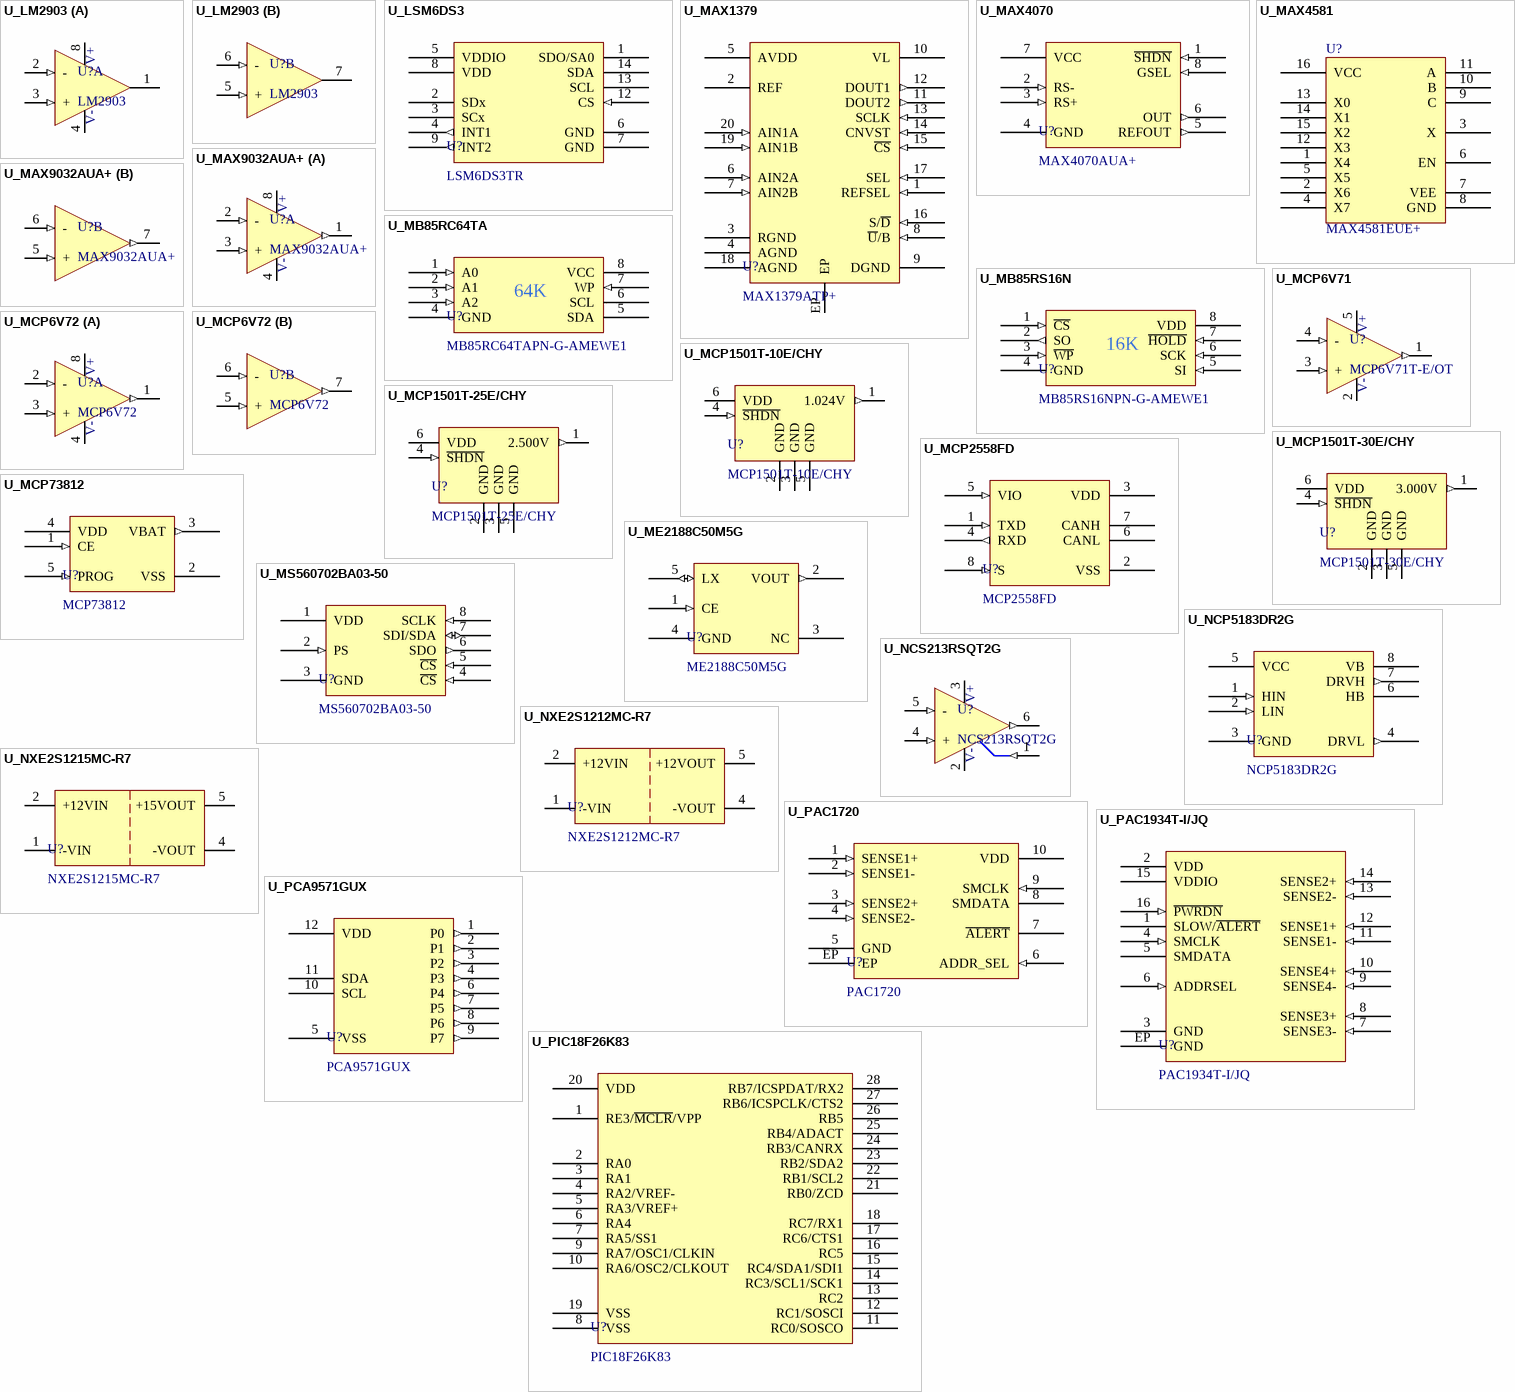
[diagram p2: symbols U_LM2903 to U_PIC18F26K83]

## U_LM2903
designator U?, comment LM2903
Comparator General Purpose CMOS, DTL, ECL, MOS, Open-Collector, TTL 8-SO; Manufacturer: STMicroelectronics; Manufacturer Part Number: LM2903DT; Max Supply Current: 1mA; Input Offset Voltage (Vos): 7mV; Voltage Gain: 106.02dB; Min Supply Voltage: 2V; Min Dual Supply Voltage: 1V; Max Power Dissipation: 710mW; Quiescent Current: 2.5mA; Max Dual Supply Voltage: 18V; Output Current: 16mA; Output Current per Channel: 100pA; Input Bias Current: 250nA; Response Time: 1.3us; Max Supply Voltage: 36V; Supplier 1: Digi-Key; Supplier Part Number 1: 497-1559-6-ND; Max Operating Temperature: 125°C; Min Operating Temperature: -40°C; Nominal Supply Current: 1mA; Max Input Current: 250nA
footprint SOIC-8 (SOIC, 8-Leads, Body 4.9x3.9mm (max), Pitch 1.27mm, IPC Medium Density)
part A pins: 1 OUT1 (oc), 2 - (in), 3 + (in), 4 VCC- (power), 8 VCC+ (power)
part B pins: 5 + (in), 6 - (in), 7 OUT2 (oc)
part A text: V+; V-

## U_LSM6DS3
designator U?, comment LSM6DS3TR
Accelerometer, Gyroscope, Temperature, 3 Axis Sensor I²C, SPI Output; Supplier 1: Digi-Key; Supplier 2: Mouser; Supplier Part Number 1: 497-15383-1-ND; Supplier Part Number 2: 511-LSM6DS3TR
footprint LGA-14_2.5x3mm (14 pin LGA package, 0.5mm pitch, 2.5x3mm)
pins: 1 SDO/SA0, 2 SDx (oc), 3 SCx (oc), 4 INT1 (out), 5 VDDIO (power), 6 GND (power), 7 GND (power), 8 VDD (power), 9 INT2 (out), 12 CS (in), 13 SCL, 14 SDA

## U_MAX1379
designator U?, comment MAX1379ATP+
12 Bit Analog to Digital Converter 2, 4 Input 2 SAR 20-TQFN-EP (5x5); Manufacturer: Maxim; Max Supply Voltage: 5.25V; Max Power Dissipation: 40mW; Nominal Supply Current: 13mA; Resolution: 12b; Interface: Serial,SPI; Conversion Rate: 1.25MS/s; Signal to Noise Ratio (SNR): 72dB; Min Supply Voltage: 1.8V; Supplier 1: Digi-Key; Supplier Part Number 1: MAX1379ATP+-ND; Max Operating Temperature: 125°C; Manufacturer Part Number: MAX1379ATP+; Min Operating Temperature: -40°C
footprint QFN-20-EP_5x5mm
pins: 1 REFSEL (in), 2 REF (power), 3 RGND (power), 4 AGND (power), 5 AVDD (power), 6 AIN2A (in), 7 AIN2B (in), 8 ~{U}/B (in), 9 DGND (power), 10 VL (power), 11 DOUT2 (out), 12 DOUT1 (out), 13 SCLK (in), 14 CNVST (in), 15 ~{CS} (in), 16 S/~{D} (in), 17 SEL (in), 18 AGND (power), 19 AIN1B (in), 20 AIN1A (in), EP (power)

## U_MAX4070
designator U?, comment MAX4070AUA+
Current Sense Amplifier 1 Circuit 8-uMAX; Supplier 1: Mouser; Supplier Part Number 1: 700-MAX4070AUA
footprint uMAX-8 (Maxium uMAX 8-pin package)
pins: 1 ~{SHDN} (in), 2 RS- (in), 3 RS+ (in), 4 GND (power), 5 REFOUT (out), 6 OUT (out), 7 VCC, 8 GSEL (in)

## U_MAX4581
designator U?, comment MAX4581EUE+
1 Circuit IC Switch 8:1 80 Ohm 16-TSSOP; Supplier 1: Digi-Key; Supplier Part Number 1: MAX4581EUE+-ND
footprint TSSOP-16 (0.65mm pitch TSSOP)
pins: 1 X4, 2 X6, 3 X, 4 X7, 5 X5, 6 EN, 7 VEE, 8 GND, 9 C, 10 B, 11 A, 12 X3, 13 X0, 14 X1, 15 X2, 16 VCC

## U_MAX9032AUA+
designator U?, comment MAX9032AUA+
Comparator General Purpose CMOS, Rail-to-Rail, TTL 8-uMAX; Manufacturer: Maxim; Min Supply Voltage: 2.5V; Input Offset Voltage (Vos): 1mV; Max Dual Supply Voltage: 2.75V; Max Supply Voltage: 5.5V; Input Bias Current: 8nA; Hysteresis: 4mV; Common Mode Rejection Ratio: 100dB; Response Time: 188ns; Quiescent Current: 55uA; Max Supply Current: 70uA; Max Power Dissipation: 362mW; Min Dual Supply Voltage: 1.25V; Propagation Delay: 228ns; Supplier 1: Digi-Key; Supplier Part Number 1: MAX9032AUA+-ND; Manufacturer Part Number: MAX9032AUA+; Min Operating Temperature: -40°C; Output Type: TTL; Max Operating Temperature: 125°C
footprint uMAX-8 (Maxium uMAX 8-pin package)
part A pins: 1 OUT1 (out), 2 - (in), 3 + (in), 4 VCC- (power), 8 VCC+ (power)
part B pins: 5 + (in), 6 - (in), 7 OUT2 (out)
part A text: V+; V-

## U_MB85RC64TA
designator U?, comment MB85RC64TAPN-G-AMEWE1
FRAM (Ferroelectric RAM) Memory IC 64Kb (8K x 8) I²C 3.4MHz 8-SON; Manufacturer: Fujitsu; Supplier 1: Digi-Key; Supplier Part Number 1: 865-1275-6-ND; Manufacturer Part Number: MB85RC64TAPN-G-AMEWE1
footprint WFDFN-8-EP-Long (8 pin 0.5mm pitch WSON package, 2x3mm)
pins: 1 A0 (in), 2 A1 (in), 3 A2 (in), 4 GND (power), 5 SDA (oc), 6 SCL (oc), 7 WP (in), 8 VCC (power)
text: 64K

## U_MB85RS16N
designator U?, comment MB85RS16NPN-G-AMEWE1
FRAM (Ferroelectric RAM) Memory IC 16Kb (2K x 8) SPI 20MHz 8-SON; Manufacturer: Fujitsu; Manufacturer Part Number: MB85RS16NPN-G-AMEWE1; Supplier 1: Digi-Key; Supplier Part Number 1: 865-1271-6-ND
footprint WFDFN-8-EP-Long (8 pin 0.5mm pitch WSON package, 2x3mm)
pins: 1 ~{CS} (in), 2 SO (out), 3 ~{WP} (in), 4 GND (power), 5 SI (in), 6 SCK (in), 7 ~{HOLD} (in), 8 VDD (power)
text: 16K

## U_MCP6V71
designator U?, comment MCP6V71T-E/OT
Zero-Drift Amplifier 1 Circuit Rail-to-Rail SOT-23-5; Manufacturer: Microchip; Input Offset Voltage (Vos): 8uV; Slew Rate: 1V/µs; Output Current per Channel: 26mA; Operating Supply Current: 170uA; Input Bias Current: 1pA; Gain Bandwidth Product: 2MHz; Supply Voltage: 2V ~ 5.5V; Min Operating Temperature: -40°C; Max Operating Temperature: 125°C; Manufacturer Part Number: MCP6V71T-E/OT; Supplier 1: Digi-Key; Supplier Part Number 1: MCP6V71T-E/OTDKR-ND
footprint SOT23-5 (SOT23-5 (SOT-25) 0.95mm pitch, 5 pins)
pins: 1 OUT (out), 2 GND (power), 3 + (in), 4 - (in), 5 VDD (power)
text: V+; V-

## U_MCP6V72
designator U?, comment MCP6V72
Zero-Drift Amplifier 2 Circuit Rail-to-Rail 8-MSOP; Manufacturer Part Number: MCP6V72-E/MS; Manufacturer: Microchip; Input Offset Voltage (Vos): 8uV; Slew Rate: 1V/µs; Output Current per Channel: 26mA; Operating Supply Current: 170uA; Input Bias Current: 1pA; Gain Bandwidth Product: 2MHz; Supply Voltage: 2V ~ 5.5V; Supplier 1: Digi-Key; Supplier Part Number 1: MCP6V72-E/MS-ND; Min Operating Temperature: -40°C; Max Operating Temperature: 125°C
footprint MSOP-8 (0.65mm pitch MSOP)
part A pins: 1 OUT (out), 2 - (in), 3 + (in), 4 GND (power), 8 VDD (power)
part B pins: 5 + (in), 6 - (in), 7 OUT (out)
part A text: V+; V-

## U_MCP1501T-10E/CHY
designator U?, comment MCP1501T-10E/CHY
Series Voltage Reference IC ±0.1% 20mA SOT-23-6; Manufacturer: Microchip; Output Type: Fixed; Operating Supply Current: 550uA; Min Output Voltage: 1.024V; Supplier 1: Digi-Key; Supplier Part Number 1: MCP1501T-10E/CHYCT-ND; Tolerance: 0.1%; Output Current: 20mA; Max Operating Temperature: 125°C; Manufacturer Part Number: MCP1501T-10E/CHY; Min Operating Temperature: -40°C; Reference Type: Series
footprint SOT23-6 (SOT23, 0.95mm pitch, 6 pins)
pins: 1 1.024V (out), 2 GND (power), 3 GND (power), 4 ~{SHDN} (in), 5 GND (power), 6 VDD (power)

## U_MCP1501T-25E/CHY
designator U?, comment MCP1501T-25E/CHY
Series Voltage Reference IC ±0.1% 20mA SOT-23-6; Manufacturer: Microchip; Output Type: Fixed; Operating Supply Current: 550uA; Min Output Voltage: 2.5V; Tolerance: 0.1%; Output Current: 20mA; Max Operating Temperature: 125°C; Manufacturer Part Number: MCP1501T-25E/CHY; Min Operating Temperature: -40°C; Reference Type: Series; Supplier 1: Digi-Key; Supplier Part Number 1: MCP1501T-25E/CHYCT-ND
footprint SOT23-6 (SOT23, 0.95mm pitch, 6 pins)
pins: 1 2.500V (out), 2 GND (power), 3 GND (power), 4 ~{SHDN} (in), 5 GND (power), 6 VDD (power)

## U_MCP1501T-30E/CHY
designator U?, comment MCP1501T-30E/CHY
Series Voltage Reference IC ±0.1% 20mA SOT-23-6; Manufacturer: Microchip; Output Type: Fixed; Operating Supply Current: 550uA; Min Output Voltage: 3V; Tolerance: 0.1%; Output Current: 20mA; Max Operating Temperature: 125°C; Manufacturer Part Number: MCP1501T-30E/CHY; Min Operating Temperature: -40°C; Reference Type: Series; Supplier 1: Digi-Key; Supplier Part Number 1: MCP1501T-30E/CHYCT-ND
footprint SOT23-6 (SOT23, 0.95mm pitch, 6 pins)
pins: 1 3.000V (out), 2 GND (power), 3 GND (power), 4 ~{SHDN} (in), 5 GND (power), 6 VDD (power)

## U_MCP2558FD
designator U?, comment MCP2558FD
1/1 Transceiver CANbus 8-SOIC; Manufacturer: Microchip; Manufacturer Part Number: MCP2558FD-H/SN; Receiver Hysteresis: 200mV; Supplier 1: Digi-Key; Supplier Part Number 1: MCP2558FD-H/SN-ND; Min Operating Temperature: -40°C; Max Operating Temperature: 150°C
footprint SOIC-8 (SOIC, 8-Leads, Body 4.9x3.9mm (max), Pitch 1.27mm, IPC Medium Density)
pins: 1 TXD (in), 2 VSS (power), 3 VDD (power), 4 RXD (out), 5 VIO (in), 6 CANL (oc), 7 CANH (oe), 8 S (in)

## U_MCP73812
designator U?, comment MCP73812
Charger IC Lithium Ion/Polymer SOT-23-5; Supplier 1: Digi-Key; Supplier 2: Mouser; Supplier Part Number 1: MCP73812T-420I/OTCT-ND; Supplier Part Number 2: 579-MCP73812T-420IOT
footprint SOT23-5 (SOT23-5 (SOT-25) 0.95mm pitch, 5 pins)
pins: 1 CE (in), 2 VSS (power), 3 VBAT (out), 4 VDD (power), 5 PROG (in)

## U_ME2188C50M5G
designator U?, comment ME2188C50M5G
DC-DC Converters Step-Up Fixed 1 0.9V 5V 5V 300mA SOT-23-5 RoHS; Manufacturer: Nanjing Micro One Elec; Frequency - Switching: 320kHz; Synchronous Rectifier: Yes; Topology: Boost; Manufacturer Part Number: ME2188C50M5G; Voltage - Input (Min): 0.9V; Voltage - Input (Max): 5V; Voltage - Output (Min/Fixed): 5V; Current - Output: 300mA; Output Type: Fixed
footprint SOT23-5 (SOT23-5 (SOT-25) 0.95mm pitch, 5 pins)
pins: 1 CE (in), 2 VOUT (out), 3 NC, 4 GND, 5 LX (io)

## U_MS560702BA03-50
designator U?, comment MS560702BA03-50
Pressure Sensor 0.15PSI ~ 17.4PSI (1kPa ~ 120kPa) Absolute 24 b 8-SMD; Manufacturer: Measurement Specialties; Max Supply Voltage: 3.6V; Min Supply Voltage: 1.8V; Nominal Supply Current: 12.5uA; Supplier 1: Digi-Key; Supplier 2: Arrow; Supplier 3: Mouser; Supplier Part Number 1: 223-1198-1-ND; Supplier Part Number 2: MS560702BA03-50; Supplier Part Number 3: 824-MS560702BA03-50; Manufacturer Part Number: MS560702BA03-50; Max Operating Temperature: 85°C; Min Operating Temperature: -40°C
footprint U_MS560702BA03-50 (BAROMETRIC PRESSURE SENSOR 8-SMD)
pins: 1 VDD (power), 2 PS (in) "Protocol Select (High=I2C, Low=SPI)", 3 GND (power), 4 ~{CS} (in), 5 ~{CS} (in), 6 SDO (out), 7 SDI/SDA (io), 8 SCLK (in)

## U_NCP5183DR2G
designator U?, comment NCP5183DR2G
Half-Bridge Gate Driver IC Non-Inverting 8-SOIC; Rise / Fall Time (Typ): 12ns, 12ns; Current - Peak Output (Source, Sink): 4.3A, 4.3A; Logic Voltage - VIL, VIH: 1.2V, 2.5V; Voltage - Supply: 9 V ~ 18 V; High Side Voltage - Max (Bootstrap): 600V; Supplier 1: Digi-Key; Operating Temperature: -40°C ~ 125°C (TJ); Driven Configuration: Half-Bridge; Supplier Part Number 1: NCP5183DR2GOSDKR-ND
footprint SOIC-8 (SOIC, 8-Leads, Body 4.9x3.9mm (max), Pitch 1.27mm, IPC Medium Density)
pins: 1 HIN (in), 2 LIN (in), 3 GND (power), 4 DRVL (out), 5 VCC (power), 6 HB (power), 7 DRVH (out), 8 VB (power)

## U_NCS213RSQT2G
designator U?, comment NCS213RSQT2G
Current Sense Amplifier 1 Circuit Rail-to-Rail SC-88/SC70-6/SOT-363, Gain=50; Manufacturer: ON Semiconductor; Gain: 50; Supplier 1: Digi-Key; Supplier Part Number 1: NCS213RSQT2GOSDKR-ND; Manufacturer Part Number: NCS213RSQT2G
footprint SC70-6
pins: 1 REF (in), 2 VCC- (power), 3 VCC+ (power), 4 + (in), 5 - (in), 6 OUT (out)
text: V+; V-

## U_NXE2S1212MC-R7
designator U?, comment NXE2S1212MC-R7
Isolated Module DC DC Converter 1 Output 12V 167mA 10.8V - 13.2V Input; Manufacturer Part Number: NXE2S1215MC-R7; Manufacturer: Murata; Supplier 1: Digi-Key; Supplier Part Number 1: 811-3184-6-ND
footprint SMD-8_DCDC_Module_NXE (Standard sized 8 (5) pin SMD dcdc converter module)
pins: 1 -VIN (power), 2 +12VIN (power), 4 -VOUT (power), 5 +12VOUT (power)

## U_NXE2S1215MC-R7
designator U?, comment NXE2S1215MC-R7
Isolated Module DC DC Converter 1 Output 15V 133mA 10.8V - 13.2V Input; Manufacturer Part Number: NXE2S1212MC-R7; Manufacturer: Murata; Supplier 1: Digi-Key; Supplier Part Number 1: 811-3185-6-ND
footprint SMD-8_DCDC_Module_NXE (Standard sized 8 (5) pin SMD dcdc converter module)
pins: 1 -VIN (power), 2 +12VIN (power), 4 -VOUT (power), 5 +15VOUT (power)

## U_PAC1720
designator U?, comment PAC1720
Current Monitor Regulator High-Side 10-DFN (3x3); Manufacturer: Microchip; Manufacturer Part Number: PAC1720-1-AIA-TR; Min Supply Voltage: 3V; Quiescent Current: 525uA; Max Supply Current: 10A; Max Supply Voltage: 5.5V; Common Mode Rejection Ratio: 80dB; Accuracy: 1%; Supplier 1: Digi-Key; Supplier Part Number 1: PAC1720-1-AIA-CT-ND; Max Operating Temperature: 85°C; Nominal Supply Current: 525uA
footprint VDFN-10-EP (10 pin 0.5mm pitch VDFN package, 3x3mm)
pins: 1 SENSE1+ (in), 2 SENSE1- (in), 3 SENSE2+ (in), 4 SENSE2- (in), 5 GND (power), 6 ADDR_SEL (in), 7 ~{ALERT} (oc), 8 SMDATA (oc), 9 SMCLK (in), 10 VDD (power), EP

## U_PAC1934T-I/JQ
designator U?, comment PAC1934T-I/JQ
Current Monitor Regulator High-Side 16-UQFN (4x4); Supplier 1: Digi-Key; Supplier Part Number 1: PAC1934T-I/JQCT-ND
footprint QFN-16-EP_4x4mm (20 pin QFN, 0.65mm pitch)
pins: 1 SLOW/~{ALERT} (oc), 2 VDD (power), 3 GND (power), 4 SMCLK (in), 5 SMDATA (oc), 6 ADDRSEL (in), 7 SENSE3- (in), 8 SENSE3+ (in), 9 SENSE4- (in), 10 SENSE4+ (in), 11 SENSE1- (in), 12 SENSE1+ (in), 13 SENSE2- (in), 14 SENSE2+ (in), 15 VDDIO (power), 16 ~{PWRDN} (in), EP GND

## U_PCA9571GUX
designator U?, comment PCA9571GUX
I/O Expander 8 I²C 1MHz 12-XQFN (2x1.7); Supplier 1: Digi-Key; Supplier 2: Arrow; Supplier Part Number 1: 568-12400-1-ND; Supplier Part Number 2: PCA9571GUX
footprint XQFN-12_2X1.7mm (XQFN-12, 2X1.7mm, SOT1174-1)
pins: 1 P0 (out), 2 P1 (out), 3 P2 (out), 4 P3 (out), 5 VSS (power), 6 P4 (out), 7 P5 (out), 8 P6 (out), 9 P7 (out), 10 SCL (oc), 11 SDA (oc), 12 VDD (power)

## U_PIC18F26K83
designator U?, comment PIC18F26K83
PIC PIC® XLP™ 18K Microcontroller IC 8-Bit 64MHz 64KB (32K x 16) FLASH 28-SSOP; Manufacturer: Microchip; Manufacturer Part Number: PIC18F26K83-I/SS; Supplier 1: Digi-Key; Supplier Part Number 1: PIC18F26K83-I/SS-ND
footprint SSOP-28 (0.65mm pitch SSOP)
pins: 1 RE3/~{MCLR}/VPP, 2 RA0, 3 RA1, 4 RA2/VREF-, 5 RA3/VREF+, 6 RA4, 7 RA5/SS1, 8 VSS (power), 9 RA7/OSC1/CLKIN, 10 RA6/OSC2/CLKOUT, 11 RC0/SOSCO, 12 RC1/SOSCI, 13 RC2, 14 RC3/SCL1/SCK1, 15 RC4/SDA1/SDI1, 16 RC5, 17 RC6/CTS1, 18 RC7/RX1, 19 VSS (power), 20 VDD (power), 21 RB0/ZCD, 22 RB1/SCL2, 23 RB2/SDA2, 24 RB3/CANRX, 25 RB4/ADACT, 26 RB5, 27 RB6/ICSPCLK/CTS2, 28 RB7/ICSPDAT/RX2

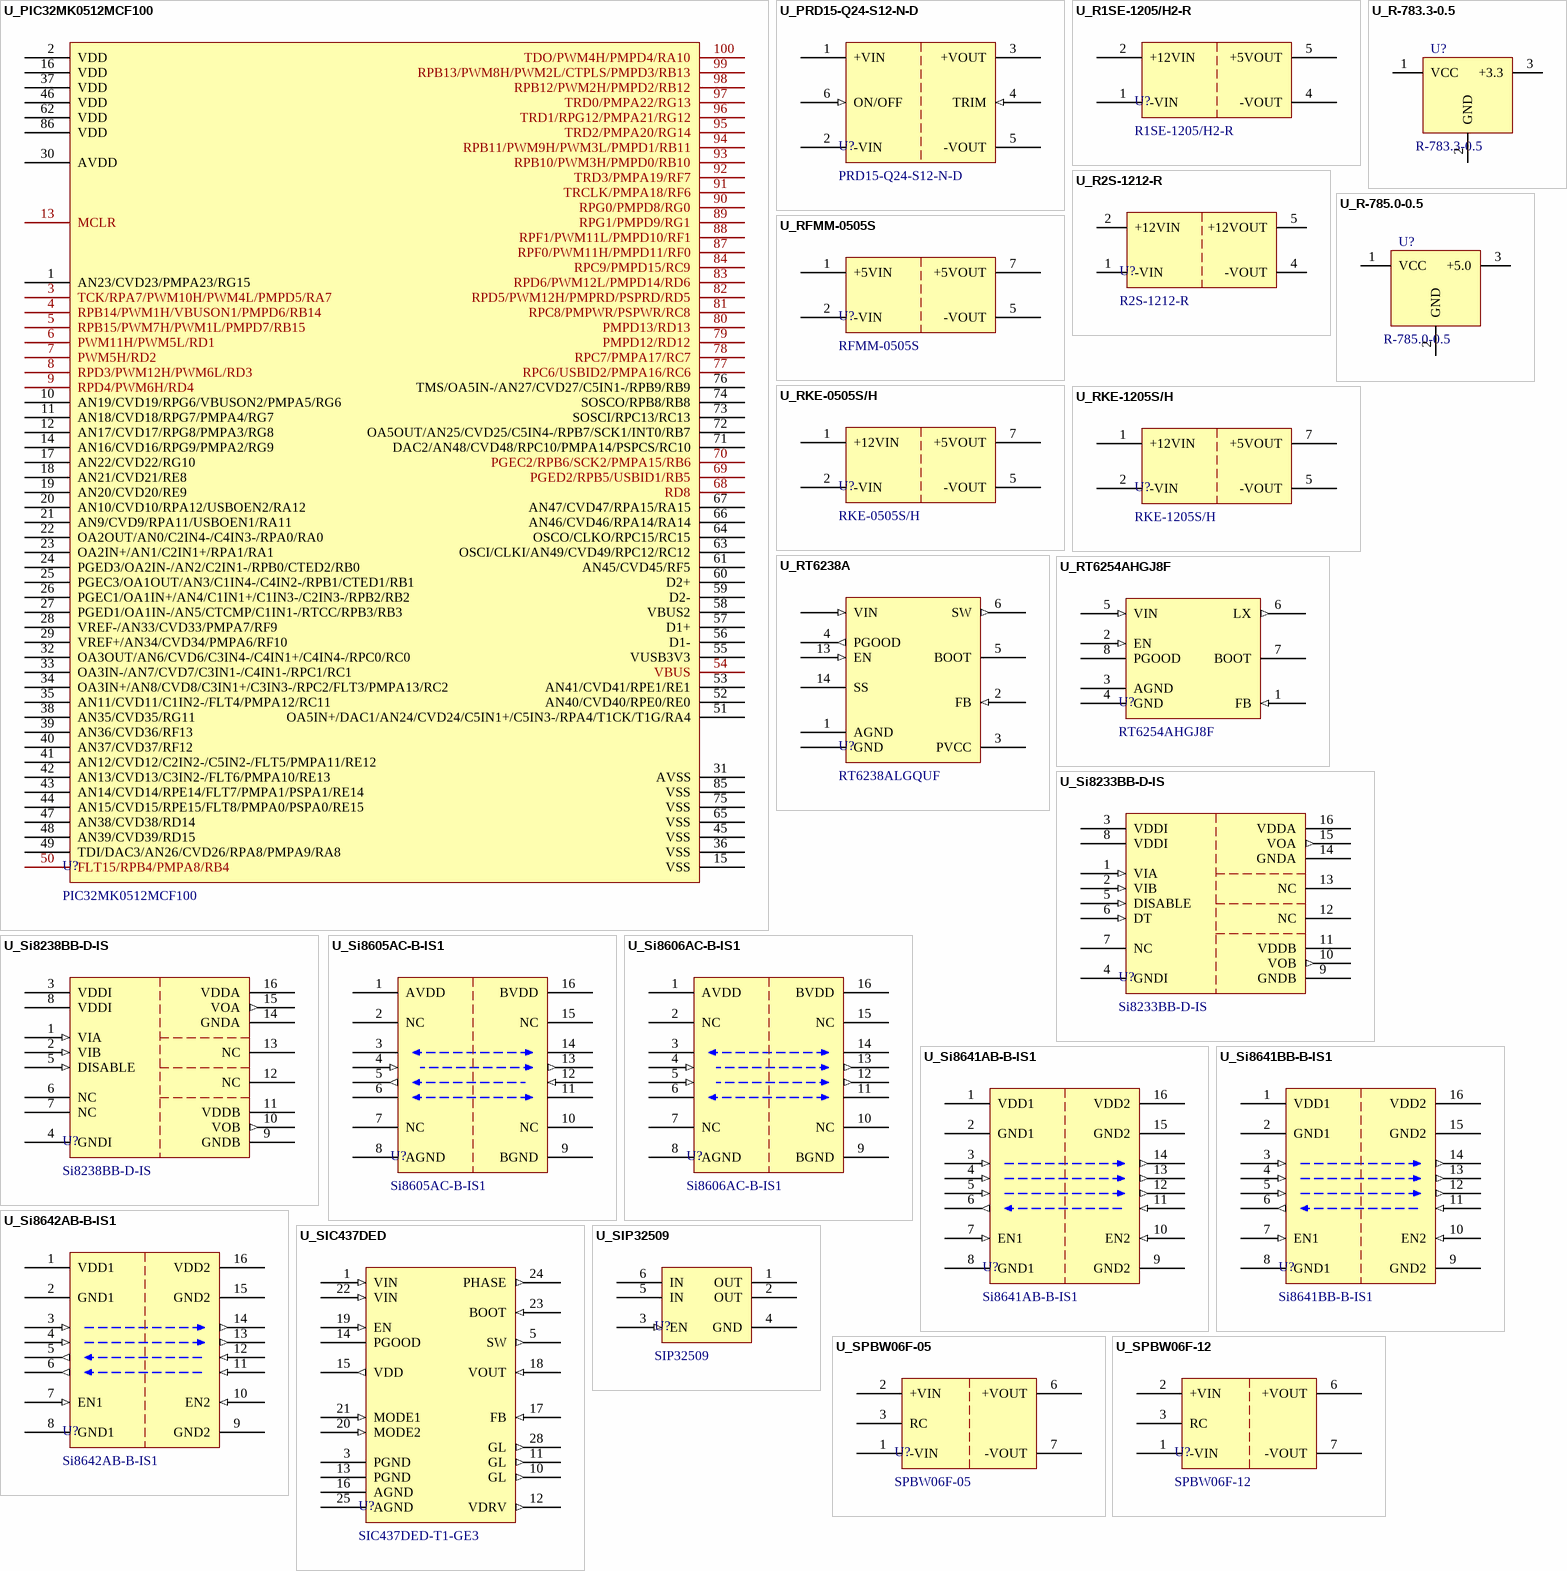
[diagram p3: symbols U_PIC32MK0512MCF100 to U_SPBW06F-12]

## U_PIC32MK0512MCF100
designator U?, comment PIC32MK0512MCF100
MIPS32® microAptiv™ PIC® 32MK Microcontroller IC 32-Bit 120MHz 512KB (512K x 8) FLASH 100-TQFP (12x12); Supplier 1: Digi-Key; Supplier Part Number 1: PIC32MK0512MCF100-I/PT-ND
footprint TQFP-100_12x12mm (100 pin LQFP, 0.4mm pitch)
pins: 1 AN23/CVD23/PMPA23/RG15, 2 VDD (power), 3 TCK/RPA7/PWM10H/PWM4L/PMPD5/RA7, 4 RPB14/PWM1H/VBUSON1/PMPD6/RB14, 5 RPB15/PWM7H/PWM1L/PMPD7/RB15, 6 PWM11H/PWM5L/RD1, 7 PWM5H/RD2, 8 RPD3/PWM12H/PWM6L/RD3, 9 RPD4/PWM6H/RD4, 10 AN19/CVD19/RPG6/VBUSON2/PMPA5/RG6, 11 AN18/CVD18/RPG7/PMPA4/RG7, 12 AN17/CVD17/RPG8/PMPA3/RG8, 13 MCLR, 14 AN16/CVD16/RPG9/PMPA2/RG9, 15 VSS (power), 16 VDD (power), 17 AN22/CVD22/RG10, 18 AN21/CVD21/RE8, 19 AN20/CVD20/RE9, 20 AN10/CVD10/RPA12/USBOEN2/RA12, 21 AN9/CVD9/RPA11/USBOEN1/RA11, 22 OA2OUT/AN0/C2IN4-/C4IN3-/RPA0/RA0, 23 OA2IN+/AN1/C2IN1+/RPA1/RA1, 24 PGED3/OA2IN-/AN2/C2IN1-/RPB0/CTED2/RB0, 25 PGEC3/OA1OUT/AN3/C1IN4-/C4IN2-/RPB1/CTED1/RB1, 26 PGEC1/OA1IN+/AN4/C1IN1+/C1IN3-/C2IN3-/RPB2/RB2, 27 PGED1/OA1IN-/AN5/CTCMP/C1IN1-/RTCC/RPB3/RB3, 28 VREF-/AN33/CVD33/PMPA7/RF9, 29 VREF+/AN34/CVD34/PMPA6/RF10, 30 AVDD (power), 31 AVSS (power), 32 OA3OUT/AN6/CVD6/C3IN4-/C4IN1+/C4IN4-/RPC0/RC0, 33 OA3IN-/AN7/CVD7/C3IN1-/C4IN1-/RPC1/RC1, 34 OA3IN+/AN8/CVD8/C3IN1+/C3IN3-/RPC2/FLT3/PMPA13/RC2, 35 AN11/CVD11/C1IN2-/FLT4/PMPA12/RC11, 36 VSS (power), 37 VDD (power), 38 AN35/CVD35/RG11, 39 AN36/CVD36/RF13, 40 AN37/CVD37/RF12, 41 AN12/CVD12/C2IN2-/C5IN2-/FLT5/PMPA11/RE12, 42 AN13/CVD13/C3IN2-/FLT6/PMPA10/RE13, 43 AN14/CVD14/RPE14/FLT7/PMPA1/PSPA1/RE14, 44 AN15/CVD15/RPE15/FLT8/PMPA0/PSPA0/RE15, 45 VSS (power), 46 VDD (power), 47 AN38/CVD38/RD14, 48 AN39/CVD39/RD15, 49 TDI/DAC3/AN26/CVD26/RPA8/PMPA9/RA8, 50 FLT15/RPB4/PMPA8/RB4, 51 OA5IN+/DAC1/AN24/CVD24/C5IN1+/C5IN3-/RPA4/T1CK/T1G/RA4, 52 AN40/CVD40/RPE0/RE0, 53 AN41/CVD41/RPE1/RE1, 54 VBUS, 55 VUSB3V3, 56 D1-, 57 D1+, 58 VBUS2, 59 D2-, 60 D2+, 61 AN45/CVD45/RF5, 62 VDD (power), 63 OSCI/CLKI/AN49/CVD49/RPC12/RC12, 64 OSCO/CLKO/RPC15/RC15, 65 VSS (power), 66 AN46/CVD46/RPA14/RA14, 67 AN47/CVD47/RPA15/RA15, 68 RD8, 69 PGED2/RPB5/USBID1/RB5, 70 PGEC2/RPB6/SCK2/PMPA15/RB6, 71 DAC2/AN48/CVD48/RPC10/PMPA14/PSPCS/RC10, 72 OA5OUT/AN25/CVD25/C5IN4-/RPB7/SCK1/INT0/RB7, 73 SOSCI/RPC13/RC13, 74 SOSCO/RPB8/RB8, 75 VSS (power), 76 TMS/OA5IN-/AN27/CVD27/C5IN1-/RPB9/RB9, 77 RPC6/USBID2/PMPA16/RC6, 78 RPC7/PMPA17/RC7, 79 PMPD12/RD12, 80 PMPD13/RD13, 81 RPC8/PMPWR/PSPWR/RC8, 82 RPD5/PWM12H/PMPRD/PSPRD/RD5, 83 RPD6/PWM12L/PMPD14/RD6, 84 RPC9/PMPD15/RC9, 85 VSS (power), 86 VDD (power), 87 RPF0/PWM11H/PMPD11/RF0, 88 RPF1/PWM11L/PMPD10/RF1, 89 RPG1/PMPD9/RG1, 90 RPG0/PMPD8/RG0, 91 TRCLK/PMPA18/RF6, 92 TRD3/PMPA19/RF7, 93 RPB10/PWM3H/PMPD0/RB10, 94 RPB11/PWM9H/PWM3L/PMPD1/RB11, 95 TRD2/PMPA20/RG14, 96 TRD1/RPG12/PMPA21/RG12, 97 TRD0/PMPA22/RG13, 98 RPB12/PWM2H/PMPD2/RB12, 99 RPB13/PWM8H/PWM2L/CTPLS/PMPD3/RB13, 100 TDO/PWM4H/PMPD4/RA10

## U_PRD15-Q24-S12-N-D
designator U?, comment PRD15-Q24-S12-N-D
Isolated Module DC DC Converter 1 Output 12V 1.3A 9V - 36V Input; Manufacturer: CUI; Max Power Dissipation: 15W; Isolation Voltage: 2kV; Efficiency: 84.5%; Supplier 1: Digi-Key; Supplier Part Number 1: 102-3730-ND; Height: 0.33inch; Manufacturer Part Number: PRD15-Q24-S12-N-D; Features: UVLO,OVP; Max Input Voltage: 36V; Min Input Voltage: 9V; Voltage - Output 1: 12V; Max Operating Temperature: 85°C; Min Operating Temperature: -40°C; Max Output Current: 1.3A
footprint DIP-6_DCDC_MODULE_PRD15 (CUI PRD15 Module 6-pin Thru-Hole)
pins: 1 +VIN (power), 2 -VIN (power), 3 +VOUT (power), 4 TRIM (in), 5 -VOUT (power), 6 ON/OFF (in)

## U_R1SE-1205/H2-R
designator U?, comment R1SE-1205/H2-R
Isolated Module DC DC Converter 1 Output 5V 200mA 10.8V - 13.2V Input; Manufacturer: Recom; Manufacturer Part Number: R1SE-1205/H2-R; Supplier 1: Digi-Key; Supplier Part Number 1: 945-2275-6-ND
footprint SMD-8_DCDC_Module_(1,2,4,5,8) (Standard sized 8 (5) pin SMD dcdc converter module)
pins: 1 -VIN (power), 2 +12VIN (power), 4 -VOUT (power), 5 +5VOUT (power)

## U_R2S-1212-R
designator U?, comment R2S-1212-R
Isolated Module DC DC Converter 1 Output 12V 167mA 10.8V - 13.2V Input; Manufacturer: Recom; Manufacturer Part Number: R2S-1212-R; Supplier 1: Digi-Key; Supplier Part Number 1: 945-1025-1-ND
footprint SMD-8_DCDC_Module_(1,2,4,5,8) (Standard sized 8 (5) pin SMD dcdc converter module)
pins: 1 -VIN (power), 2 +12VIN (power), 4 -VOUT (power), 5 +12VOUT (power)

## U_R-783.3-0.5
designator U?, comment R-783.3-0.5
IC REG 0.5A 3.3V; Manufacturer: Recom Power; Efficiency: 91%; Voltage - Input (Min): 4.75V; Voltage - Input (Max): 32V; Current - Output (Max): 500mA; Manufacturer PN: R-783.3-0.5; Voltage - Output 1: 3.3V; Size / Dimension: 0.45" L x 0.30" W x 0.40" H (11.5mm x 7.5mm x 10.2mm); Supplier 1: Digi-Key; Supplier Part Number 1: 945-1035-ND
footprint SIP-3_DCDC_Module
pins: 1 VCC (power), 2 GND (power), 3 +3.3 (power)

## U_R-785.0-0.5
designator U?, comment R-785.0-0.5
IC REG 0.5A 5.0V; Manufacturer: Recom Power; Known Distributors: Digikey; Manufacturer PN: R-785.0-0.5; ComponentLink1Description: Datasheet; ComponentLink1URL: http://www.digikey.com/product-search/en?vendor=0&keywords=R-785.0-0.5; Price: 6.81; Supplier 1: Digi-Key; Supplier Part Number 1: 945-1037-ND
footprint SIP-3_DCDC_Module
pins: 1 VCC (power), 2 GND (power), 3 +5.0 (power)

## U_RFMM-0505S
designator U?, comment RFMM-0505S
Isolated Module DC DC Converter 1 Output 5V 200mA - 5V Input; Manufacturer: Recom; Supplier 1: Digi-Key; Supplier Part Number 1: 945-3160-ND; Manufacturer Part Number: RFMM-0505S; Max Output Voltage: 5V
footprint SIP-7_DCDC_Module_(1,2,5,7) (Only pins 1,2,5,7 present)
pins: 1 +5VIN (power), 2 -VIN (power), 5 -VOUT (power), 7 +5VOUT (power)

## U_RKE-0505S/H
designator U?, comment RKE-0505S/H
Isolated Module DC DC Converter 1 Output 5V 200mA 4.5V - 5.5V Input; Manufacturer: Recom; Manufacturer Part Number: RKE-0505S/H; Supplier 1: Digi-Key; Supplier Part Number 1: 945-2123-ND
footprint SIP-7_DCDC_Module_(1,2,5,7) (Only pins 1,2,5,7 present)
pins: 1 +12VIN (power), 2 -VIN (power), 5 -VOUT (power), 7 +5VOUT (power)